# Altium integrated library Actel RTAX-DSP.IntLib: 8 symbols (part 1 of 2)
Pins are listed as number, name and electrical type; pins without a type are passive.

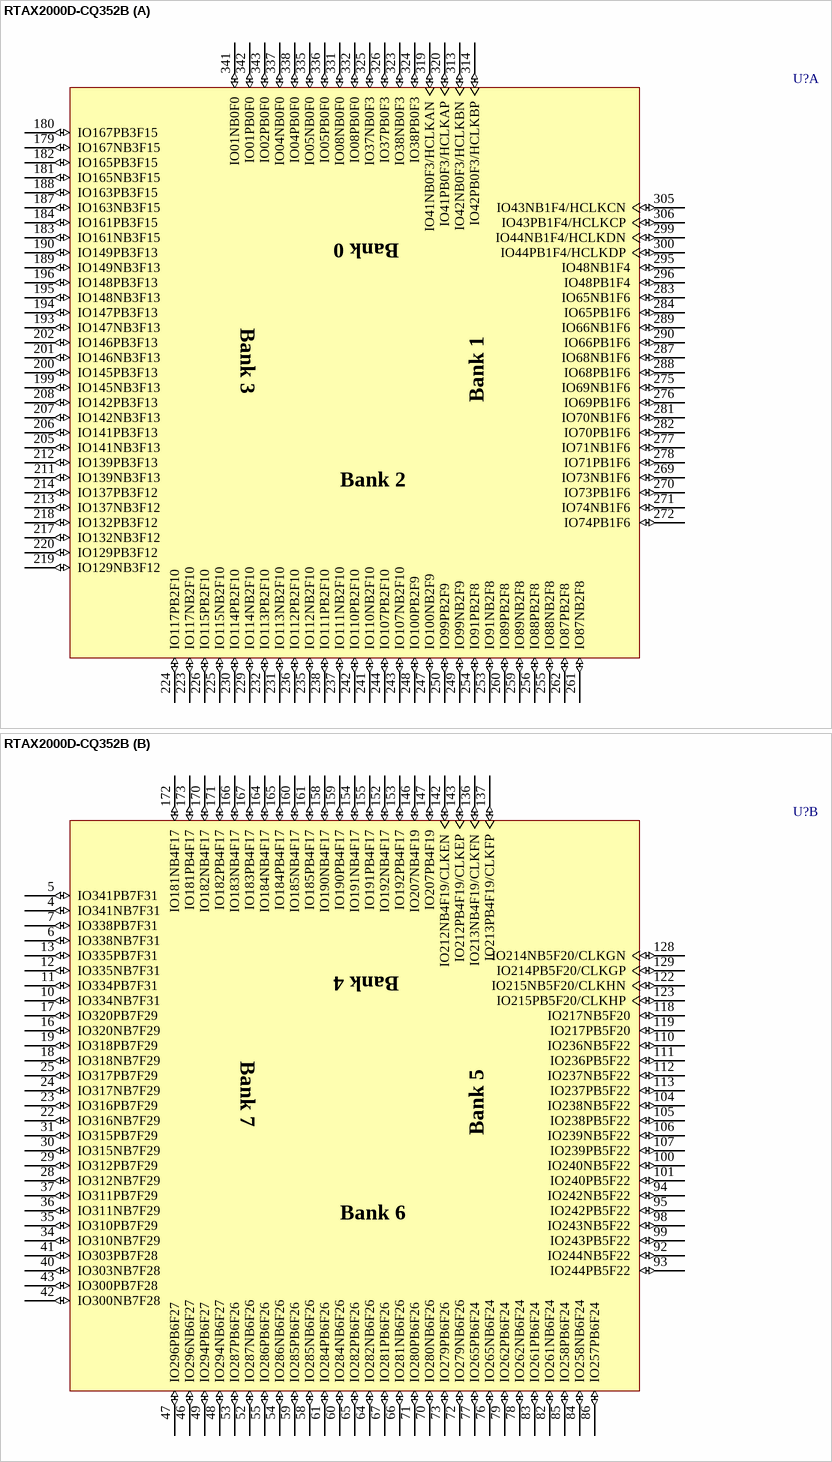
[diagram p0: symbol RTAX2000D-CQ352B]

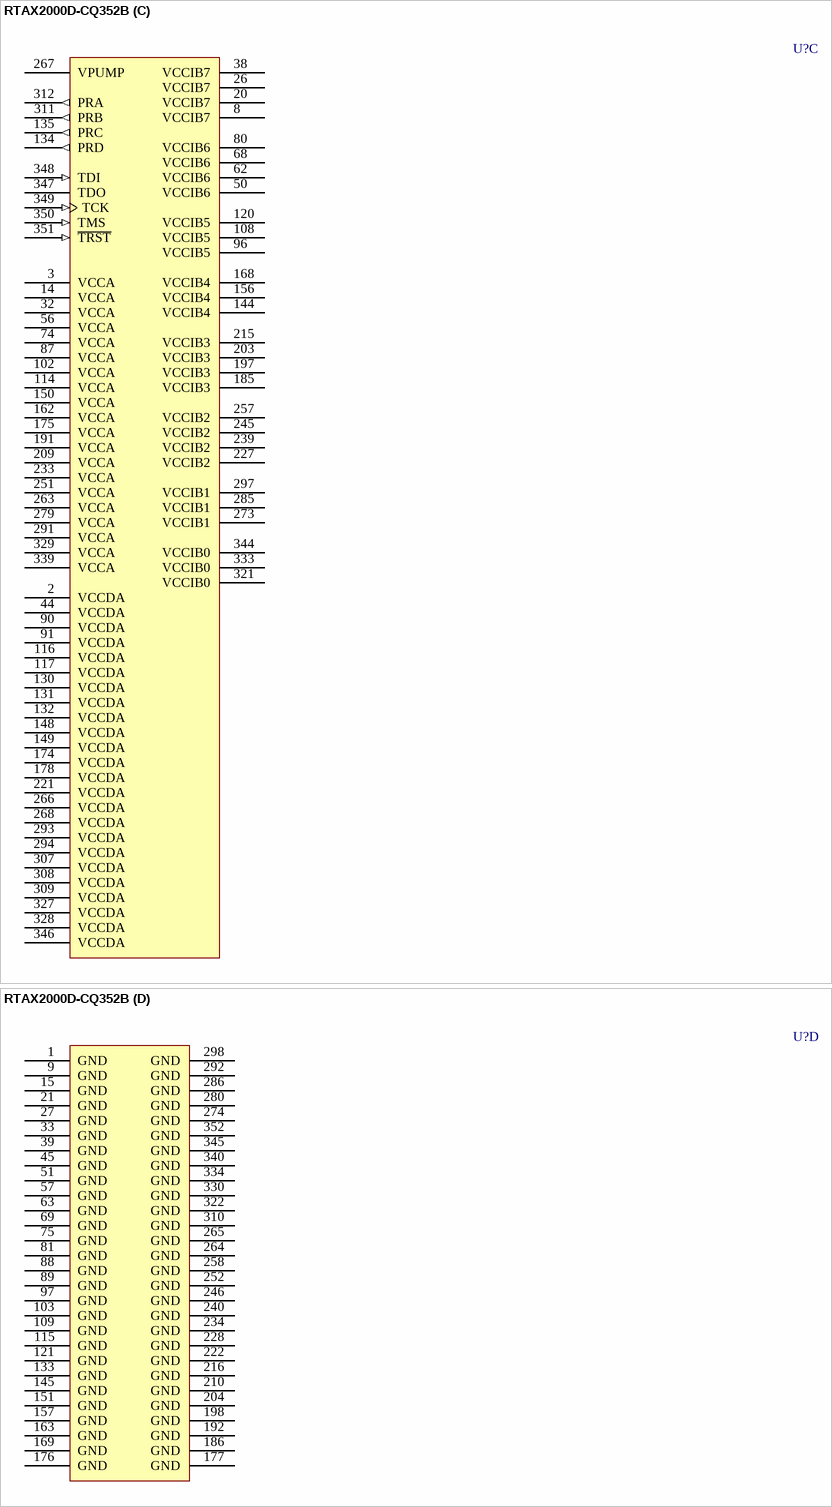
[diagram p1: symbol RTAX2000D-CQ352B]

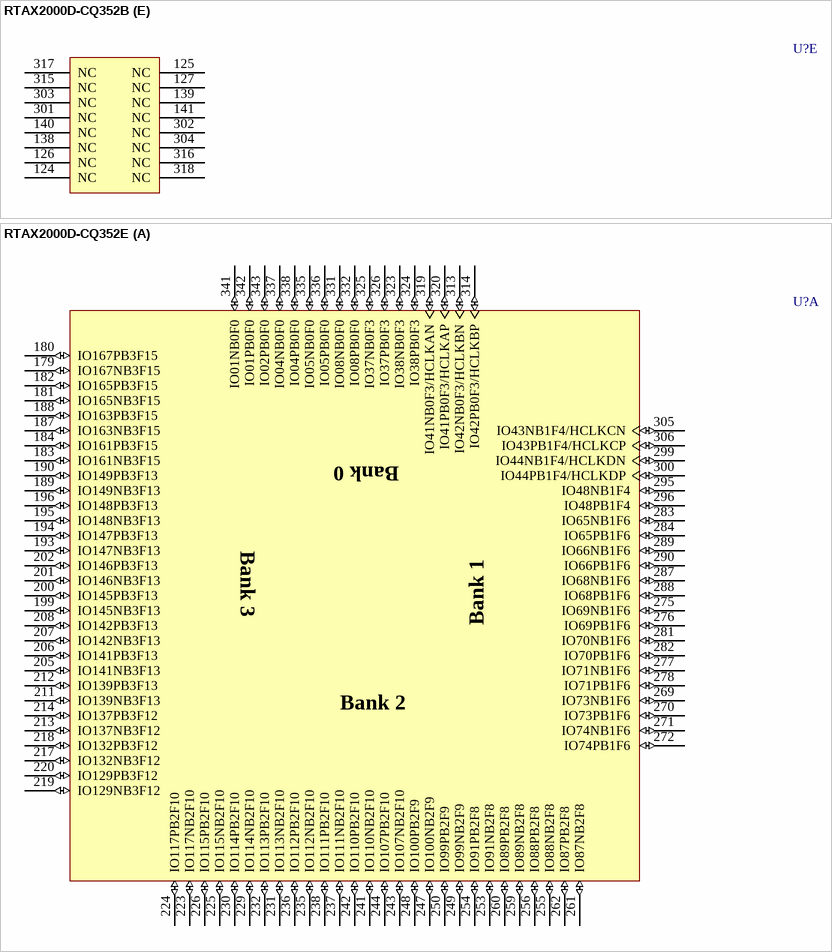
[diagram p2: symbols RTAX2000D-CQ352B to RTAX2000D-CQ352E]

## RTAX2000D-CQ352B
designator U?
RTAX-DSP RadTolerant FPGA, 2 Million Equivalent System Gates, 352-Pin CQFP, Standard Speed Grade, MIL-STD-883 Class B; Published: 11-Dec-2009; DatasheetVersion: v0.2, Nov-2009; PackageVersion: ver11.2, Nov-2009; PackageReference: CQ352; Publisher: Altium Limited; PackageDescription: 352-Pin Ceramic Quad Flat Pack (CQFP), Cavity Up without Heat Sink; Code_JEDEC: MO-134-AE; ComponentLink1Description: RTAX-S/SL RadTolerant Datasheet; ComponentLink1URL: http://www.actel.com/documents/RTAXS_DS.pdf; ComponentLink2Description: Package Mechanical Drawings; ComponentLink2URL: http://www.actel.com/documents/PckgMechDrwngs.pdf; ComponentLink3Description: RTAX-DSP Documents; ComponentLink3URL: http://www.actel.com/products/milaero/rtaxdsp/docs.aspx; ComponentLink4Description: Actel.com Home; ComponentLink4URL: http://www.actel.com/
footprint CQ352_N (CQFP, 352-Leads, Body 48x48mm; Pitch 0.5mm, Gullwing Leadform, IPC Medium Density)
footprint CQ352_L (CQFP, 352-Leads, Body 48x48mm; Pitch 0.5mm, Gullwing Leadform, IPC High Density)
footprint CQ352_M (CQFP, 352-Leads, Body 48x48mm; Pitch 0.5mm, Gullwing Leadform, IPC Low Density)
part A pins: 179 IO167NB3F15 (io), 180 IO167PB3F15 (io), 181 IO165NB3F15 (io), 182 IO165PB3F15 (io), 183 IO161NB3F15 (io), 184 IO161PB3F15 (io), 187 IO163NB3F15 (io), 188 IO163PB3F15 (io), 189 IO149NB3F13 (io), 190 IO149PB3F13 (io), 193 IO147NB3F13 (io), 194 IO147PB3F13 (io), 195 IO148NB3F13 (io), 196 IO148PB3F13 (io), 199 IO145NB3F13 (io), 200 IO145PB3F13 (io), 201 IO146NB3F13 (io), 202 IO146PB3F13 (io), 205 IO141NB3F13 (io), 206 IO141PB3F13 (io), 207 IO142NB3F13 (io), 208 IO142PB3F13 (io), 211 IO139NB3F13 (io), 212 IO139PB3F13 (io), 213 IO137NB3F12 (io), 214 IO137PB3F12 (io), 217 IO132NB3F12 (io), 218 IO132PB3F12 (io), 219 IO129NB3F12 (io), 220 IO129PB3F12 (io), 223 IO117NB2F10 (io), 224 IO117PB2F10 (io), 225 IO115NB2F10 (io), 226 IO115PB2F10 (io), 229 IO114NB2F10 (io), 230 IO114PB2F10 (io), 231 IO113NB2F10 (io), 232 IO113PB2F10 (io), 235 IO112NB2F10 (io), 236 IO112PB2F10 (io), 237 IO111NB2F10 (io), 238 IO111PB2F10 (io), 241 IO110NB2F10 (io), 242 IO110PB2F10 (io), 243 IO107NB2F10 (io), 244 IO107PB2F10 (io), 247 IO100NB2F9 (io), 248 IO100PB2F9 (io), 249 IO99NB2F9 (io), 250 IO99PB2F9 (io), 253 IO91NB2F8 (io), 254 IO91PB2F8 (io), 255 IO88NB2F8 (io), 256 IO88PB2F8 (io), 259 IO89NB2F8 (io), 260 IO89PB2F8 (io), 261 IO87NB2F8 (io), 262 IO87PB2F8 (io), 269 IO73NB1F6 (io), 270 IO73PB1F6 (io), 271 IO74NB1F6 (io), 272 IO74PB1F6 (io), 275 IO69NB1F6 (io), 276 IO69PB1F6 (io), 277 IO71NB1F6 (io), 278 IO71PB1F6 (io), 281 IO70NB1F6 (io), 282 IO70PB1F6 (io), 283 IO65NB1F6 (io), 284 IO65PB1F6 (io), 287 IO68NB1F6 (io), 288 IO68PB1F6 (io), 289 IO66NB1F6 (io), 290 IO66PB1F6 (io), 295 IO48NB1F4 (io), 296 IO48PB1F4 (io), 299 IO44NB1F4/HCLKDN (io), 300 IO44PB1F4/HCLKDP (io), 305 IO43NB1F4/HCLKCN (io), 306 IO43PB1F4/HCLKCP (io), 313 IO42NB0F3/HCLKBN (io), 314 IO42PB0F3/HCLKBP (io), 319 IO41NB0F3/HCLKAN (io), 320 IO41PB0F3/HCLKAP (io), 323 IO38NB0F3 (io), 324 IO38PB0F3 (io), 325 IO37NB0F3 (io), 326 IO37PB0F3 (io), 331 IO08NB0F0 (io), 332 IO08PB0F0 (io), 335 IO05NB0F0 (io), 336 IO05PB0F0 (io), 337 IO04NB0F0 (io), 338 IO04PB0F0 (io), 341 IO01NB0F0 (io), 342 IO01PB0F0 (io), 343 IO02PB0F0 (io)
part B pins: 4 IO341NB7F31 (io), 5 IO341PB7F31 (io), 6 IO338NB7F31 (io), 7 IO338PB7F31 (io), 10 IO334NB7F31 (io), 11 IO334PB7F31 (io), 12 IO335NB7F31 (io), 13 IO335PB7F31 (io), 16 IO320NB7F29 (io), 17 IO320PB7F29 (io), 18 IO318NB7F29 (io), 19 IO318PB7F29 (io), 22 IO316NB7F29 (io), 23 IO316PB7F29 (io), 24 IO317NB7F29 (io), 25 IO317PB7F29 (io), 28 IO312NB7F29 (io), 29 IO312PB7F29 (io), 30 IO315NB7F29 (io), 31 IO315PB7F29 (io), 34 IO310NB7F29 (io), 35 IO310PB7F29 (io), 36 IO311NB7F29 (io), 37 IO311PB7F29 (io), 40 IO303NB7F28 (io), 41 IO303PB7F28 (io), 42 IO300NB7F28 (io), 43 IO300PB7F28 (io), 46 IO296NB6F27 (io), 47 IO296PB6F27 (io), 48 IO294NB6F27 (io), 49 IO294PB6F27 (io), 52 IO287NB6F26 (io), 53 IO287PB6F26 (io), 54 IO286NB6F26 (io), 55 IO286PB6F26 (io), 58 IO285NB6F26 (io), 59 IO285PB6F26 (io), 60 IO284NB6F26 (io), 61 IO284PB6F26 (io), 64 IO282NB6F26 (io), 65 IO282PB6F26 (io), 66 IO281NB6F26 (io), 67 IO281PB6F26 (io), 70 IO280NB6F26 (io), 71 IO280PB6F26 (io), 72 IO279NB6F26 (io), 73 IO279PB6F26 (io), 76 IO265NB6F24 (io), 77 IO265PB6F24 (io), 78 IO262NB6F24 (io), 79 IO262PB6F24 (io), 82 IO261NB6F24 (io), 83 IO261PB6F24 (io), 84 IO258NB6F24 (io), 85 IO258PB6F24 (io), 86 IO257PB6F24 (io), 92 IO244NB5F22 (io), 93 IO244PB5F22 (io), 94 IO242NB5F22 (io), 95 IO242PB5F22 (io), 98 IO243NB5F22 (io), 99 IO243PB5F22 (io), 100 IO240NB5F22 (io), 101 IO240PB5F22 (io), 104 IO238NB5F22 (io), 105 IO238PB5F22 (io), 106 IO239NB5F22 (io), 107 IO239PB5F22 (io), 110 IO236NB5F22 (io), 111 IO236PB5F22 (io), 112 IO237NB5F22 (io), 113 IO237PB5F22 (io), 118 IO217NB5F20 (io), 119 IO217PB5F20 (io), 122 IO215NB5F20/CLKHN (io), 123 IO215PB5F20/CLKHP (io), 128 IO214NB5F20/CLKGN (io), 129 IO214PB5F20/CLKGP (io), 136 IO213NB4F19/CLKFN (io), 137 IO213PB4F19/CLKFP (io), 142 IO212NB4F19/CLKEN (io), 143 IO212PB4F19/CLKEP (io), 146 IO207NB4F19 (io), 147 IO207PB4F19 (io), 152 IO192NB4F17 (io), 153 IO192PB4F17 (io), 154 IO191NB4F17 (io), 155 IO191PB4F17 (io), 158 IO190NB4F17 (io), 159 IO190PB4F17 (io), 160 IO185NB4F17 (io), 161 IO185PB4F17 (io), 164 IO184NB4F17 (io), 165 IO184PB4F17 (io), 166 IO183NB4F17 (io), 167 IO183PB4F17 (io), 170 IO182NB4F17 (io), 171 IO182PB4F17 (io), 172 IO181NB4F17 (io), 173 IO181PB4F17 (io)
part C pins: 2 VCCDA (power), 3 VCCA (power), 8 VCCIB7 (power), 14 VCCA (power), 20 VCCIB7 (power), 26 VCCIB7 (power), 32 VCCA (power), 38 VCCIB7 (power), 44 VCCDA (power), 50 VCCIB6 (power), 56 VCCA (power), 62 VCCIB6 (power), 68 VCCIB6 (power), 74 VCCA (power), 80 VCCIB6 (power), 87 VCCA (power), 90 VCCDA (power), 91 VCCDA (power), 96 VCCIB5 (power), 102 VCCA (power), 108 VCCIB5 (power), 114 VCCA (power), 116 VCCDA (power), 117 VCCDA (power), 120 VCCIB5 (power), 130 VCCDA (power), 131 VCCDA (power), 132 VCCDA (power), 134 PRD (out), 135 PRC (out), 144 VCCIB4 (power), 148 VCCDA (power), 149 VCCDA (power), 150 VCCA (power), 156 VCCIB4 (power), 162 VCCA (power), 168 VCCIB4 (power), 174 VCCDA (power), 175 VCCA (power), 178 VCCDA (power), 185 VCCIB3 (power), 191 VCCA (power), 197 VCCIB3 (power), 203 VCCIB3 (power), 209 VCCA (power), 215 VCCIB3 (power), 221 VCCDA (power), 227 VCCIB2 (power), 233 VCCA (power), 239 VCCIB2 (power), 245 VCCIB2 (power), 251 VCCA (power), 257 VCCIB2 (power), 263 VCCA (power), 266 VCCDA (power), 267 VPUMP (power), 268 VCCDA (power), 273 VCCIB1 (power), 279 VCCA (power), 285 VCCIB1 (power), 291 VCCA (power), 293 VCCDA (power), 294 VCCDA (power), 297 VCCIB1 (power), 307 VCCDA (power), 308 VCCDA (power), 309 VCCDA (power), 311 PRB (out), 312 PRA (out), 321 VCCIB0 (power), 327 VCCDA (power), 328 VCCDA (power), 329 VCCA (power), 333 VCCIB0 (power), 339 VCCA (power), 344 VCCIB0 (power), 346 VCCDA (power), 347 TDO (hiz), 348 TDI (in), 349 TCK (in), 350 TMS (in), 351 ~{TRST} (in)
part D pins: 1 GND (power), 9 GND (power), 15 GND (power), 21 GND (power), 27 GND (power), 33 GND (power), 39 GND (power), 45 GND (power), 51 GND (power), 57 GND (power), 63 GND (power), 69 GND (power), 75 GND (power), 81 GND (power), 88 GND (power), 89 GND (power), 97 GND (power), 103 GND (power), 109 GND (power), 115 GND (power), 121 GND (power), 133 GND (power), 145 GND (power), 151 GND (power), 157 GND (power), 163 GND (power), 169 GND (power), 176 GND (power), 177 GND (power), 186 GND (power), 192 GND (power), 198 GND (power), 204 GND (power), 210 GND (power), 216 GND (power), 222 GND (power), 228 GND (power), 234 GND (power), 240 GND (power), 246 GND (power), 252 GND (power), 258 GND (power), 264 GND (power), 265 GND (power), 274 GND (power), 280 GND (power), 286 GND (power), 292 GND (power), 298 GND (power), 310 GND (power), 322 GND (power), 330 GND (power), 334 GND (power), 340 GND (power), 345 GND (power), 352 GND (power)
part E pins: 124 NC, 125 NC, 126 NC, 127 NC, 138 NC, 139 NC, 140 NC, 141 NC, 301 NC, 302 NC, 303 NC, 304 NC, 315 NC, 316 NC, 317 NC, 318 NC
part A text: Bank 0; Bank 3; Bank 1; Bank 2
part B text: Bank 4; Bank 7; Bank 5; Bank 6

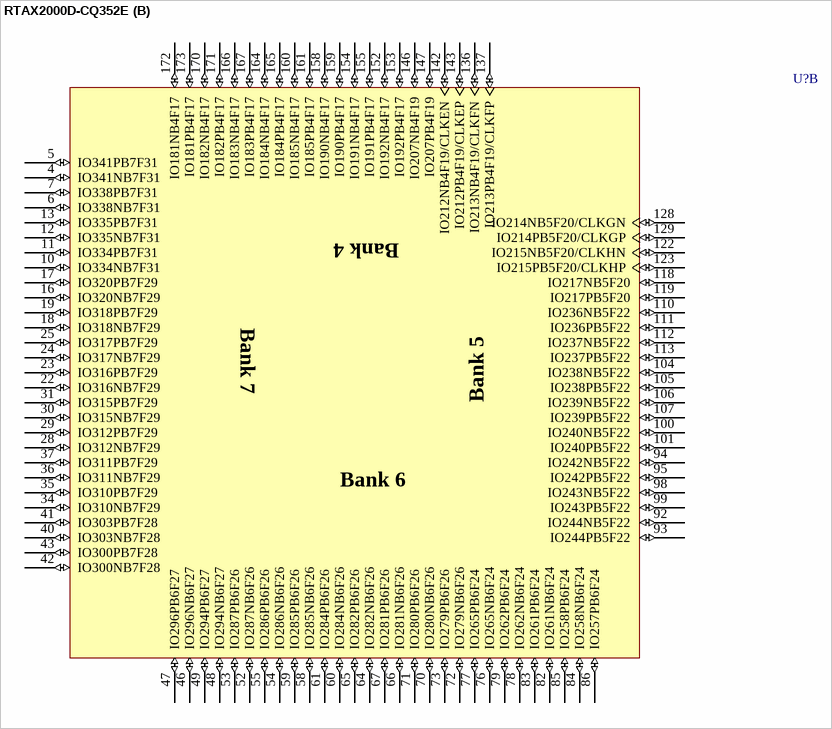
[diagram p3: symbol RTAX2000D-CQ352E]

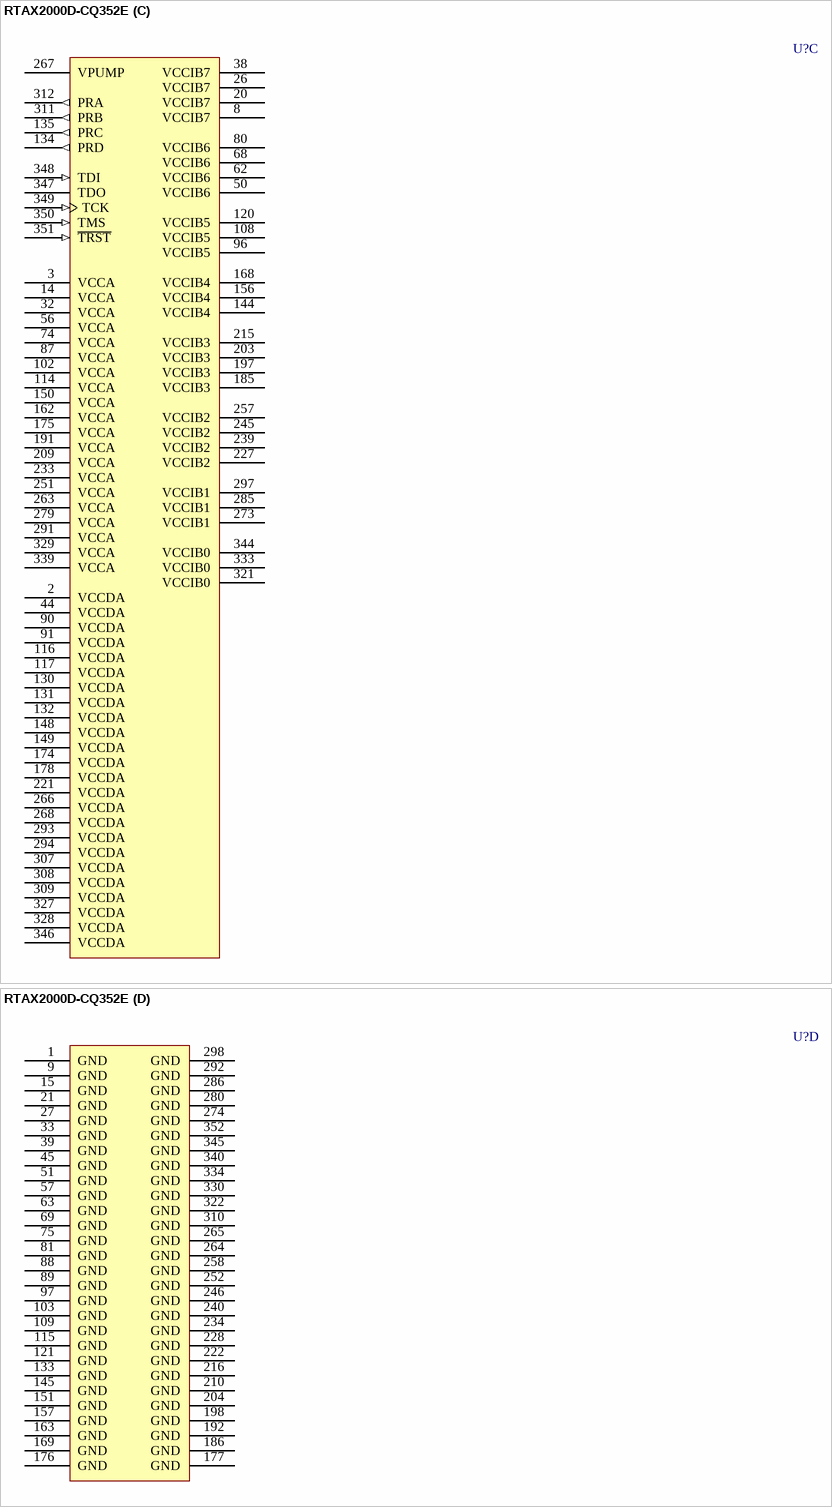
[diagram p4: symbol RTAX2000D-CQ352E]

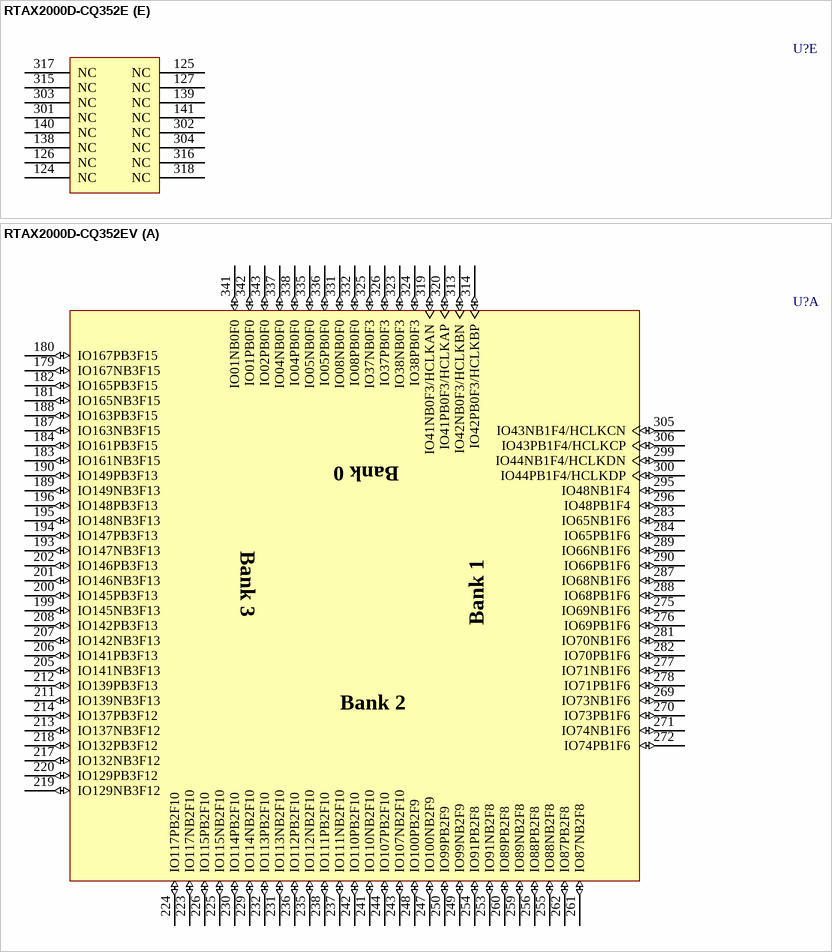
[diagram p5: symbols RTAX2000D-CQ352E to RTAX2000D-CQ352EV]

## RTAX2000D-CQ352E
designator U?
RTAX-DSP RadTolerant FPGA, 2 Million Equivalent System Gates, 352-Pin CQFP, Standard Speed Grade, E-Flow (Space Level Flow); Published: 11-Dec-2009; DatasheetVersion: v0.2, Nov-2009; PackageVersion: ver11.2, Nov-2009; PackageReference: CQ352; Publisher: Altium Limited; PackageDescription: 352-Pin Ceramic Quad Flat Pack (CQFP), Cavity Up without Heat Sink; Code_JEDEC: MO-134-AE; ComponentLink1Description: RTAX-S/SL RadTolerant Datasheet; ComponentLink1URL: http://www.actel.com/documents/RTAXS_DS.pdf; ComponentLink2Description: Package Mechanical Drawings; ComponentLink2URL: http://www.actel.com/documents/PckgMechDrwngs.pdf; ComponentLink3Description: RTAX-DSP Documents; ComponentLink3URL: http://www.actel.com/products/milaero/rtaxdsp/docs.aspx; ComponentLink4Description: Actel.com Home; ComponentLink4URL: http://www.actel.com/
footprint CQ352_N (CQFP, 352-Leads, Body 48x48mm; Pitch 0.5mm, Gullwing Leadform, IPC Medium Density)
footprint CQ352_L (CQFP, 352-Leads, Body 48x48mm; Pitch 0.5mm, Gullwing Leadform, IPC High Density)
footprint CQ352_M (CQFP, 352-Leads, Body 48x48mm; Pitch 0.5mm, Gullwing Leadform, IPC Low Density)
part A pins: 179 IO167NB3F15 (io), 180 IO167PB3F15 (io), 181 IO165NB3F15 (io), 182 IO165PB3F15 (io), 183 IO161NB3F15 (io), 184 IO161PB3F15 (io), 187 IO163NB3F15 (io), 188 IO163PB3F15 (io), 189 IO149NB3F13 (io), 190 IO149PB3F13 (io), 193 IO147NB3F13 (io), 194 IO147PB3F13 (io), 195 IO148NB3F13 (io), 196 IO148PB3F13 (io), 199 IO145NB3F13 (io), 200 IO145PB3F13 (io), 201 IO146NB3F13 (io), 202 IO146PB3F13 (io), 205 IO141NB3F13 (io), 206 IO141PB3F13 (io), 207 IO142NB3F13 (io), 208 IO142PB3F13 (io), 211 IO139NB3F13 (io), 212 IO139PB3F13 (io), 213 IO137NB3F12 (io), 214 IO137PB3F12 (io), 217 IO132NB3F12 (io), 218 IO132PB3F12 (io), 219 IO129NB3F12 (io), 220 IO129PB3F12 (io), 223 IO117NB2F10 (io), 224 IO117PB2F10 (io), 225 IO115NB2F10 (io), 226 IO115PB2F10 (io), 229 IO114NB2F10 (io), 230 IO114PB2F10 (io), 231 IO113NB2F10 (io), 232 IO113PB2F10 (io), 235 IO112NB2F10 (io), 236 IO112PB2F10 (io), 237 IO111NB2F10 (io), 238 IO111PB2F10 (io), 241 IO110NB2F10 (io), 242 IO110PB2F10 (io), 243 IO107NB2F10 (io), 244 IO107PB2F10 (io), 247 IO100NB2F9 (io), 248 IO100PB2F9 (io), 249 IO99NB2F9 (io), 250 IO99PB2F9 (io), 253 IO91NB2F8 (io), 254 IO91PB2F8 (io), 255 IO88NB2F8 (io), 256 IO88PB2F8 (io), 259 IO89NB2F8 (io), 260 IO89PB2F8 (io), 261 IO87NB2F8 (io), 262 IO87PB2F8 (io), 269 IO73NB1F6 (io), 270 IO73PB1F6 (io), 271 IO74NB1F6 (io), 272 IO74PB1F6 (io), 275 IO69NB1F6 (io), 276 IO69PB1F6 (io), 277 IO71NB1F6 (io), 278 IO71PB1F6 (io), 281 IO70NB1F6 (io), 282 IO70PB1F6 (io), 283 IO65NB1F6 (io), 284 IO65PB1F6 (io), 287 IO68NB1F6 (io), 288 IO68PB1F6 (io), 289 IO66NB1F6 (io), 290 IO66PB1F6 (io), 295 IO48NB1F4 (io), 296 IO48PB1F4 (io), 299 IO44NB1F4/HCLKDN (io), 300 IO44PB1F4/HCLKDP (io), 305 IO43NB1F4/HCLKCN (io), 306 IO43PB1F4/HCLKCP (io), 313 IO42NB0F3/HCLKBN (io), 314 IO42PB0F3/HCLKBP (io), 319 IO41NB0F3/HCLKAN (io), 320 IO41PB0F3/HCLKAP (io), 323 IO38NB0F3 (io), 324 IO38PB0F3 (io), 325 IO37NB0F3 (io), 326 IO37PB0F3 (io), 331 IO08NB0F0 (io), 332 IO08PB0F0 (io), 335 IO05NB0F0 (io), 336 IO05PB0F0 (io), 337 IO04NB0F0 (io), 338 IO04PB0F0 (io), 341 IO01NB0F0 (io), 342 IO01PB0F0 (io), 343 IO02PB0F0 (io)
part B pins: 4 IO341NB7F31 (io), 5 IO341PB7F31 (io), 6 IO338NB7F31 (io), 7 IO338PB7F31 (io), 10 IO334NB7F31 (io), 11 IO334PB7F31 (io), 12 IO335NB7F31 (io), 13 IO335PB7F31 (io), 16 IO320NB7F29 (io), 17 IO320PB7F29 (io), 18 IO318NB7F29 (io), 19 IO318PB7F29 (io), 22 IO316NB7F29 (io), 23 IO316PB7F29 (io), 24 IO317NB7F29 (io), 25 IO317PB7F29 (io), 28 IO312NB7F29 (io), 29 IO312PB7F29 (io), 30 IO315NB7F29 (io), 31 IO315PB7F29 (io), 34 IO310NB7F29 (io), 35 IO310PB7F29 (io), 36 IO311NB7F29 (io), 37 IO311PB7F29 (io), 40 IO303NB7F28 (io), 41 IO303PB7F28 (io), 42 IO300NB7F28 (io), 43 IO300PB7F28 (io), 46 IO296NB6F27 (io), 47 IO296PB6F27 (io), 48 IO294NB6F27 (io), 49 IO294PB6F27 (io), 52 IO287NB6F26 (io), 53 IO287PB6F26 (io), 54 IO286NB6F26 (io), 55 IO286PB6F26 (io), 58 IO285NB6F26 (io), 59 IO285PB6F26 (io), 60 IO284NB6F26 (io), 61 IO284PB6F26 (io), 64 IO282NB6F26 (io), 65 IO282PB6F26 (io), 66 IO281NB6F26 (io), 67 IO281PB6F26 (io), 70 IO280NB6F26 (io), 71 IO280PB6F26 (io), 72 IO279NB6F26 (io), 73 IO279PB6F26 (io), 76 IO265NB6F24 (io), 77 IO265PB6F24 (io), 78 IO262NB6F24 (io), 79 IO262PB6F24 (io), 82 IO261NB6F24 (io), 83 IO261PB6F24 (io), 84 IO258NB6F24 (io), 85 IO258PB6F24 (io), 86 IO257PB6F24 (io), 92 IO244NB5F22 (io), 93 IO244PB5F22 (io), 94 IO242NB5F22 (io), 95 IO242PB5F22 (io), 98 IO243NB5F22 (io), 99 IO243PB5F22 (io), 100 IO240NB5F22 (io), 101 IO240PB5F22 (io), 104 IO238NB5F22 (io), 105 IO238PB5F22 (io), 106 IO239NB5F22 (io), 107 IO239PB5F22 (io), 110 IO236NB5F22 (io), 111 IO236PB5F22 (io), 112 IO237NB5F22 (io), 113 IO237PB5F22 (io), 118 IO217NB5F20 (io), 119 IO217PB5F20 (io), 122 IO215NB5F20/CLKHN (io), 123 IO215PB5F20/CLKHP (io), 128 IO214NB5F20/CLKGN (io), 129 IO214PB5F20/CLKGP (io), 136 IO213NB4F19/CLKFN (io), 137 IO213PB4F19/CLKFP (io), 142 IO212NB4F19/CLKEN (io), 143 IO212PB4F19/CLKEP (io), 146 IO207NB4F19 (io), 147 IO207PB4F19 (io), 152 IO192NB4F17 (io), 153 IO192PB4F17 (io), 154 IO191NB4F17 (io), 155 IO191PB4F17 (io), 158 IO190NB4F17 (io), 159 IO190PB4F17 (io), 160 IO185NB4F17 (io), 161 IO185PB4F17 (io), 164 IO184NB4F17 (io), 165 IO184PB4F17 (io), 166 IO183NB4F17 (io), 167 IO183PB4F17 (io), 170 IO182NB4F17 (io), 171 IO182PB4F17 (io), 172 IO181NB4F17 (io), 173 IO181PB4F17 (io)
part C pins: 2 VCCDA (power), 3 VCCA (power), 8 VCCIB7 (power), 14 VCCA (power), 20 VCCIB7 (power), 26 VCCIB7 (power), 32 VCCA (power), 38 VCCIB7 (power), 44 VCCDA (power), 50 VCCIB6 (power), 56 VCCA (power), 62 VCCIB6 (power), 68 VCCIB6 (power), 74 VCCA (power), 80 VCCIB6 (power), 87 VCCA (power), 90 VCCDA (power), 91 VCCDA (power), 96 VCCIB5 (power), 102 VCCA (power), 108 VCCIB5 (power), 114 VCCA (power), 116 VCCDA (power), 117 VCCDA (power), 120 VCCIB5 (power), 130 VCCDA (power), 131 VCCDA (power), 132 VCCDA (power), 134 PRD (out), 135 PRC (out), 144 VCCIB4 (power), 148 VCCDA (power), 149 VCCDA (power), 150 VCCA (power), 156 VCCIB4 (power), 162 VCCA (power), 168 VCCIB4 (power), 174 VCCDA (power), 175 VCCA (power), 178 VCCDA (power), 185 VCCIB3 (power), 191 VCCA (power), 197 VCCIB3 (power), 203 VCCIB3 (power), 209 VCCA (power), 215 VCCIB3 (power), 221 VCCDA (power), 227 VCCIB2 (power), 233 VCCA (power), 239 VCCIB2 (power), 245 VCCIB2 (power), 251 VCCA (power), 257 VCCIB2 (power), 263 VCCA (power), 266 VCCDA (power), 267 VPUMP (power), 268 VCCDA (power), 273 VCCIB1 (power), 279 VCCA (power), 285 VCCIB1 (power), 291 VCCA (power), 293 VCCDA (power), 294 VCCDA (power), 297 VCCIB1 (power), 307 VCCDA (power), 308 VCCDA (power), 309 VCCDA (power), 311 PRB (out), 312 PRA (out), 321 VCCIB0 (power), 327 VCCDA (power), 328 VCCDA (power), 329 VCCA (power), 333 VCCIB0 (power), 339 VCCA (power), 344 VCCIB0 (power), 346 VCCDA (power), 347 TDO (hiz), 348 TDI (in), 349 TCK (in), 350 TMS (in), 351 ~{TRST} (in)
part D pins: 1 GND (power), 9 GND (power), 15 GND (power), 21 GND (power), 27 GND (power), 33 GND (power), 39 GND (power), 45 GND (power), 51 GND (power), 57 GND (power), 63 GND (power), 69 GND (power), 75 GND (power), 81 GND (power), 88 GND (power), 89 GND (power), 97 GND (power), 103 GND (power), 109 GND (power), 115 GND (power), 121 GND (power), 133 GND (power), 145 GND (power), 151 GND (power), 157 GND (power), 163 GND (power), 169 GND (power), 176 GND (power), 177 GND (power), 186 GND (power), 192 GND (power), 198 GND (power), 204 GND (power), 210 GND (power), 216 GND (power), 222 GND (power), 228 GND (power), 234 GND (power), 240 GND (power), 246 GND (power), 252 GND (power), 258 GND (power), 264 GND (power), 265 GND (power), 274 GND (power), 280 GND (power), 286 GND (power), 292 GND (power), 298 GND (power), 310 GND (power), 322 GND (power), 330 GND (power), 334 GND (power), 340 GND (power), 345 GND (power), 352 GND (power)
part E pins: 124 NC, 125 NC, 126 NC, 127 NC, 138 NC, 139 NC, 140 NC, 141 NC, 301 NC, 302 NC, 303 NC, 304 NC, 315 NC, 316 NC, 317 NC, 318 NC
part A text: Bank 0; Bank 3; Bank 1; Bank 2
part B text: Bank 4; Bank 7; Bank 5; Bank 6

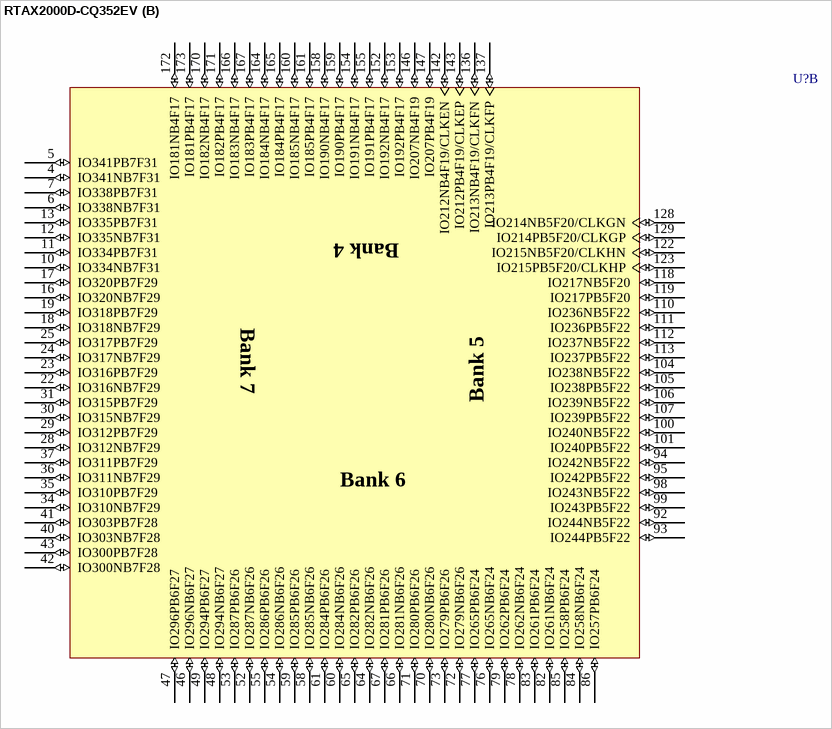
[diagram p6: symbol RTAX2000D-CQ352EV]

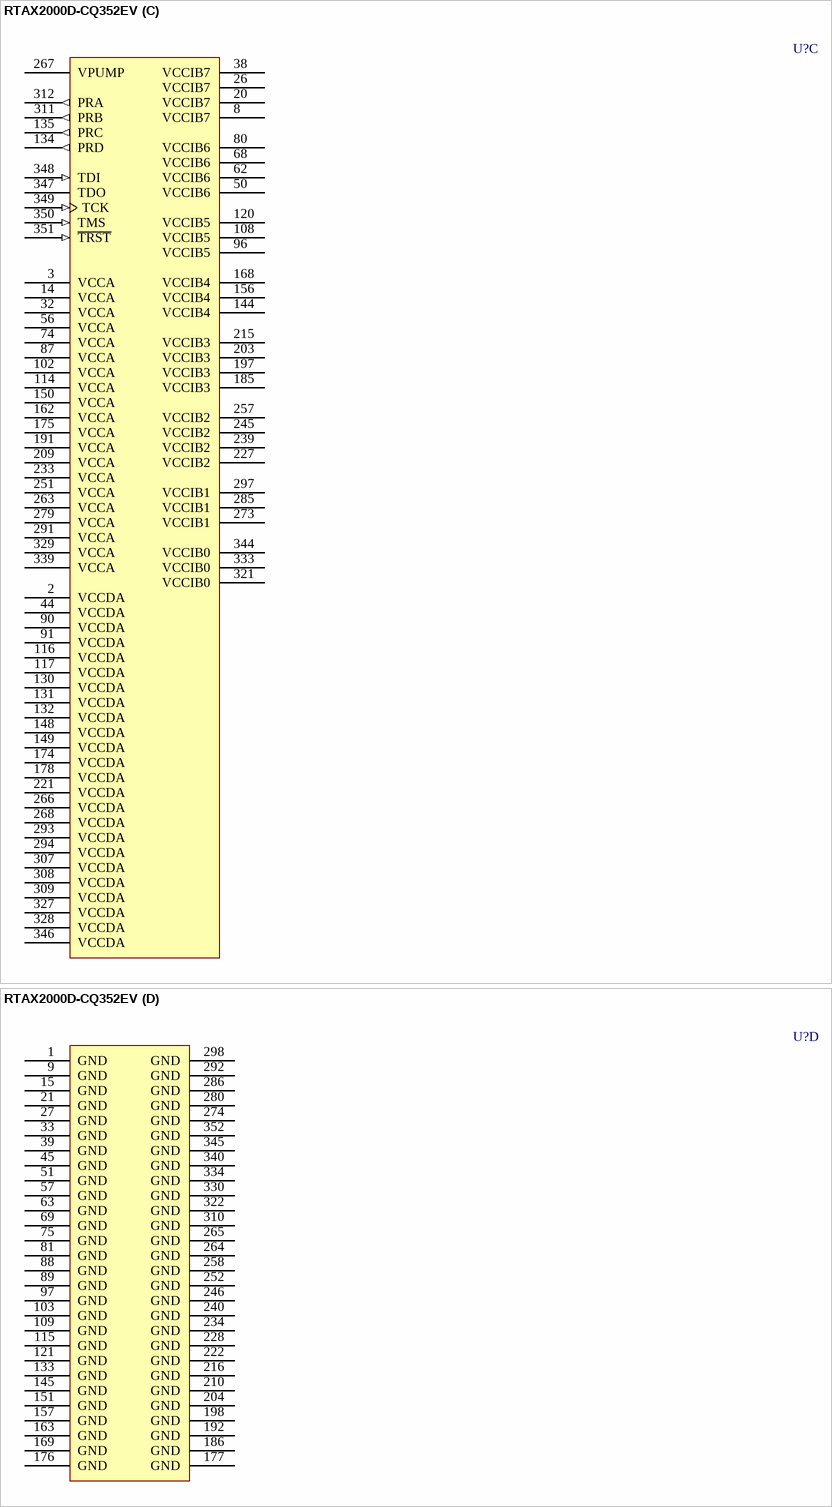
[diagram p7: symbol RTAX2000D-CQ352EV]

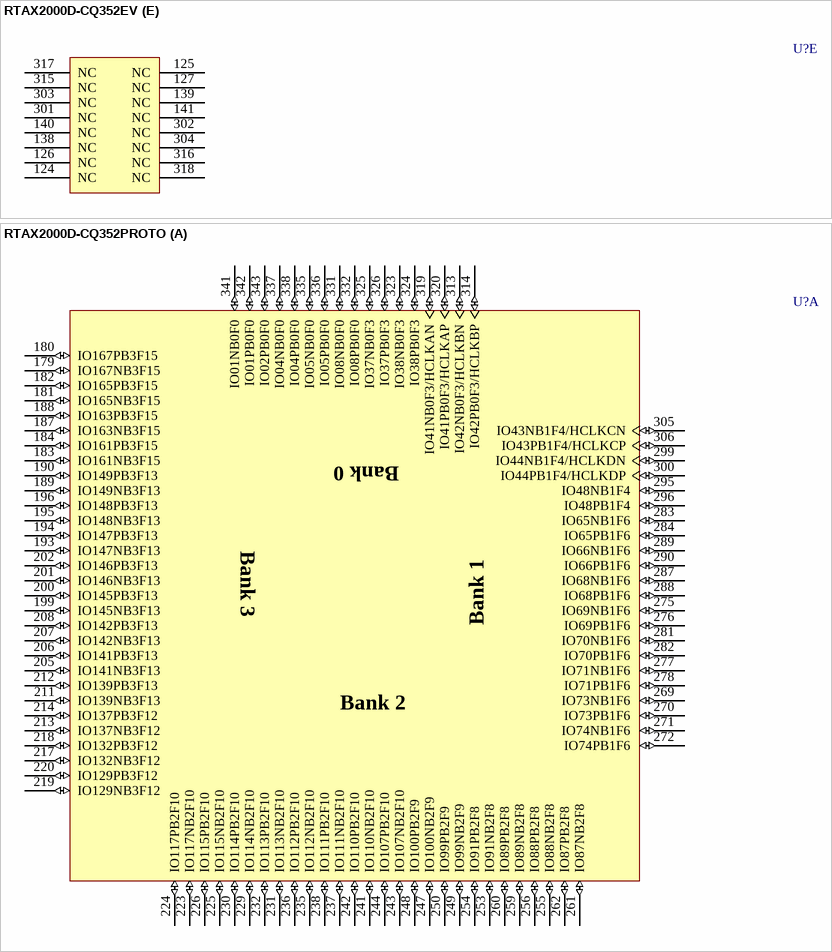
[diagram p8: symbols RTAX2000D-CQ352EV to RTAX2000D-CQ352PROTO]

## RTAX2000D-CQ352EV
designator U?
RTAX-DSP RadTolerant FPGA, 2 Million Equivalent System Gates, 352-Pin CQFP, Standard Speed Grade, Class V; Published: 11-Dec-2009; DatasheetVersion: v0.2, Nov-2009; PackageVersion: ver11.2, Nov-2009; PackageReference: CQ352; Publisher: Altium Limited; PackageDescription: 352-Pin Ceramic Quad Flat Pack (CQFP), Cavity Up without Heat Sink; Code_JEDEC: MO-134-AE; ComponentLink1Description: RTAX-S/SL RadTolerant Datasheet; ComponentLink1URL: http://www.actel.com/documents/RTAXS_DS.pdf; ComponentLink2Description: Package Mechanical Drawings; ComponentLink2URL: http://www.actel.com/documents/PckgMechDrwngs.pdf; ComponentLink3Description: RTAX-DSP Documents; ComponentLink3URL: http://www.actel.com/products/milaero/rtaxdsp/docs.aspx; ComponentLink4Description: Actel.com Home; ComponentLink4URL: http://www.actel.com/
footprint CQ352_N (CQFP, 352-Leads, Body 48x48mm; Pitch 0.5mm, Gullwing Leadform, IPC Medium Density)
footprint CQ352_L (CQFP, 352-Leads, Body 48x48mm; Pitch 0.5mm, Gullwing Leadform, IPC High Density)
footprint CQ352_M (CQFP, 352-Leads, Body 48x48mm; Pitch 0.5mm, Gullwing Leadform, IPC Low Density)
part A pins: 179 IO167NB3F15 (io), 180 IO167PB3F15 (io), 181 IO165NB3F15 (io), 182 IO165PB3F15 (io), 183 IO161NB3F15 (io), 184 IO161PB3F15 (io), 187 IO163NB3F15 (io), 188 IO163PB3F15 (io), 189 IO149NB3F13 (io), 190 IO149PB3F13 (io), 193 IO147NB3F13 (io), 194 IO147PB3F13 (io), 195 IO148NB3F13 (io), 196 IO148PB3F13 (io), 199 IO145NB3F13 (io), 200 IO145PB3F13 (io), 201 IO146NB3F13 (io), 202 IO146PB3F13 (io), 205 IO141NB3F13 (io), 206 IO141PB3F13 (io), 207 IO142NB3F13 (io), 208 IO142PB3F13 (io), 211 IO139NB3F13 (io), 212 IO139PB3F13 (io), 213 IO137NB3F12 (io), 214 IO137PB3F12 (io), 217 IO132NB3F12 (io), 218 IO132PB3F12 (io), 219 IO129NB3F12 (io), 220 IO129PB3F12 (io), 223 IO117NB2F10 (io), 224 IO117PB2F10 (io), 225 IO115NB2F10 (io), 226 IO115PB2F10 (io), 229 IO114NB2F10 (io), 230 IO114PB2F10 (io), 231 IO113NB2F10 (io), 232 IO113PB2F10 (io), 235 IO112NB2F10 (io), 236 IO112PB2F10 (io), 237 IO111NB2F10 (io), 238 IO111PB2F10 (io), 241 IO110NB2F10 (io), 242 IO110PB2F10 (io), 243 IO107NB2F10 (io), 244 IO107PB2F10 (io), 247 IO100NB2F9 (io), 248 IO100PB2F9 (io), 249 IO99NB2F9 (io), 250 IO99PB2F9 (io), 253 IO91NB2F8 (io), 254 IO91PB2F8 (io), 255 IO88NB2F8 (io), 256 IO88PB2F8 (io), 259 IO89NB2F8 (io), 260 IO89PB2F8 (io), 261 IO87NB2F8 (io), 262 IO87PB2F8 (io), 269 IO73NB1F6 (io), 270 IO73PB1F6 (io), 271 IO74NB1F6 (io), 272 IO74PB1F6 (io), 275 IO69NB1F6 (io), 276 IO69PB1F6 (io), 277 IO71NB1F6 (io), 278 IO71PB1F6 (io), 281 IO70NB1F6 (io), 282 IO70PB1F6 (io), 283 IO65NB1F6 (io), 284 IO65PB1F6 (io), 287 IO68NB1F6 (io), 288 IO68PB1F6 (io), 289 IO66NB1F6 (io), 290 IO66PB1F6 (io), 295 IO48NB1F4 (io), 296 IO48PB1F4 (io), 299 IO44NB1F4/HCLKDN (io), 300 IO44PB1F4/HCLKDP (io), 305 IO43NB1F4/HCLKCN (io), 306 IO43PB1F4/HCLKCP (io), 313 IO42NB0F3/HCLKBN (io), 314 IO42PB0F3/HCLKBP (io), 319 IO41NB0F3/HCLKAN (io), 320 IO41PB0F3/HCLKAP (io), 323 IO38NB0F3 (io), 324 IO38PB0F3 (io), 325 IO37NB0F3 (io), 326 IO37PB0F3 (io), 331 IO08NB0F0 (io), 332 IO08PB0F0 (io), 335 IO05NB0F0 (io), 336 IO05PB0F0 (io), 337 IO04NB0F0 (io), 338 IO04PB0F0 (io), 341 IO01NB0F0 (io), 342 IO01PB0F0 (io), 343 IO02PB0F0 (io)
part B pins: 4 IO341NB7F31 (io), 5 IO341PB7F31 (io), 6 IO338NB7F31 (io), 7 IO338PB7F31 (io), 10 IO334NB7F31 (io), 11 IO334PB7F31 (io), 12 IO335NB7F31 (io), 13 IO335PB7F31 (io), 16 IO320NB7F29 (io), 17 IO320PB7F29 (io), 18 IO318NB7F29 (io), 19 IO318PB7F29 (io), 22 IO316NB7F29 (io), 23 IO316PB7F29 (io), 24 IO317NB7F29 (io), 25 IO317PB7F29 (io), 28 IO312NB7F29 (io), 29 IO312PB7F29 (io), 30 IO315NB7F29 (io), 31 IO315PB7F29 (io), 34 IO310NB7F29 (io), 35 IO310PB7F29 (io), 36 IO311NB7F29 (io), 37 IO311PB7F29 (io), 40 IO303NB7F28 (io), 41 IO303PB7F28 (io), 42 IO300NB7F28 (io), 43 IO300PB7F28 (io), 46 IO296NB6F27 (io), 47 IO296PB6F27 (io), 48 IO294NB6F27 (io), 49 IO294PB6F27 (io), 52 IO287NB6F26 (io), 53 IO287PB6F26 (io), 54 IO286NB6F26 (io), 55 IO286PB6F26 (io), 58 IO285NB6F26 (io), 59 IO285PB6F26 (io), 60 IO284NB6F26 (io), 61 IO284PB6F26 (io), 64 IO282NB6F26 (io), 65 IO282PB6F26 (io), 66 IO281NB6F26 (io), 67 IO281PB6F26 (io), 70 IO280NB6F26 (io), 71 IO280PB6F26 (io), 72 IO279NB6F26 (io), 73 IO279PB6F26 (io), 76 IO265NB6F24 (io), 77 IO265PB6F24 (io), 78 IO262NB6F24 (io), 79 IO262PB6F24 (io), 82 IO261NB6F24 (io), 83 IO261PB6F24 (io), 84 IO258NB6F24 (io), 85 IO258PB6F24 (io), 86 IO257PB6F24 (io), 92 IO244NB5F22 (io), 93 IO244PB5F22 (io), 94 IO242NB5F22 (io), 95 IO242PB5F22 (io), 98 IO243NB5F22 (io), 99 IO243PB5F22 (io), 100 IO240NB5F22 (io), 101 IO240PB5F22 (io), 104 IO238NB5F22 (io), 105 IO238PB5F22 (io), 106 IO239NB5F22 (io), 107 IO239PB5F22 (io), 110 IO236NB5F22 (io), 111 IO236PB5F22 (io), 112 IO237NB5F22 (io), 113 IO237PB5F22 (io), 118 IO217NB5F20 (io), 119 IO217PB5F20 (io), 122 IO215NB5F20/CLKHN (io), 123 IO215PB5F20/CLKHP (io), 128 IO214NB5F20/CLKGN (io), 129 IO214PB5F20/CLKGP (io), 136 IO213NB4F19/CLKFN (io), 137 IO213PB4F19/CLKFP (io), 142 IO212NB4F19/CLKEN (io), 143 IO212PB4F19/CLKEP (io), 146 IO207NB4F19 (io), 147 IO207PB4F19 (io), 152 IO192NB4F17 (io), 153 IO192PB4F17 (io), 154 IO191NB4F17 (io), 155 IO191PB4F17 (io), 158 IO190NB4F17 (io), 159 IO190PB4F17 (io), 160 IO185NB4F17 (io), 161 IO185PB4F17 (io), 164 IO184NB4F17 (io), 165 IO184PB4F17 (io), 166 IO183NB4F17 (io), 167 IO183PB4F17 (io), 170 IO182NB4F17 (io), 171 IO182PB4F17 (io), 172 IO181NB4F17 (io), 173 IO181PB4F17 (io)
part C pins: 2 VCCDA (power), 3 VCCA (power), 8 VCCIB7 (power), 14 VCCA (power), 20 VCCIB7 (power), 26 VCCIB7 (power), 32 VCCA (power), 38 VCCIB7 (power), 44 VCCDA (power), 50 VCCIB6 (power), 56 VCCA (power), 62 VCCIB6 (power), 68 VCCIB6 (power), 74 VCCA (power), 80 VCCIB6 (power), 87 VCCA (power), 90 VCCDA (power), 91 VCCDA (power), 96 VCCIB5 (power), 102 VCCA (power), 108 VCCIB5 (power), 114 VCCA (power), 116 VCCDA (power), 117 VCCDA (power), 120 VCCIB5 (power), 130 VCCDA (power), 131 VCCDA (power), 132 VCCDA (power), 134 PRD (out), 135 PRC (out), 144 VCCIB4 (power), 148 VCCDA (power), 149 VCCDA (power), 150 VCCA (power), 156 VCCIB4 (power), 162 VCCA (power), 168 VCCIB4 (power), 174 VCCDA (power), 175 VCCA (power), 178 VCCDA (power), 185 VCCIB3 (power), 191 VCCA (power), 197 VCCIB3 (power), 203 VCCIB3 (power), 209 VCCA (power), 215 VCCIB3 (power), 221 VCCDA (power), 227 VCCIB2 (power), 233 VCCA (power), 239 VCCIB2 (power), 245 VCCIB2 (power), 251 VCCA (power), 257 VCCIB2 (power), 263 VCCA (power), 266 VCCDA (power), 267 VPUMP (power), 268 VCCDA (power), 273 VCCIB1 (power), 279 VCCA (power), 285 VCCIB1 (power), 291 VCCA (power), 293 VCCDA (power), 294 VCCDA (power), 297 VCCIB1 (power), 307 VCCDA (power), 308 VCCDA (power), 309 VCCDA (power), 311 PRB (out), 312 PRA (out), 321 VCCIB0 (power), 327 VCCDA (power), 328 VCCDA (power), 329 VCCA (power), 333 VCCIB0 (power), 339 VCCA (power), 344 VCCIB0 (power), 346 VCCDA (power), 347 TDO (hiz), 348 TDI (in), 349 TCK (in), 350 TMS (in), 351 ~{TRST} (in)
part D pins: 1 GND (power), 9 GND (power), 15 GND (power), 21 GND (power), 27 GND (power), 33 GND (power), 39 GND (power), 45 GND (power), 51 GND (power), 57 GND (power), 63 GND (power), 69 GND (power), 75 GND (power), 81 GND (power), 88 GND (power), 89 GND (power), 97 GND (power), 103 GND (power), 109 GND (power), 115 GND (power), 121 GND (power), 133 GND (power), 145 GND (power), 151 GND (power), 157 GND (power), 163 GND (power), 169 GND (power), 176 GND (power), 177 GND (power), 186 GND (power), 192 GND (power), 198 GND (power), 204 GND (power), 210 GND (power), 216 GND (power), 222 GND (power), 228 GND (power), 234 GND (power), 240 GND (power), 246 GND (power), 252 GND (power), 258 GND (power), 264 GND (power), 265 GND (power), 274 GND (power), 280 GND (power), 286 GND (power), 292 GND (power), 298 GND (power), 310 GND (power), 322 GND (power), 330 GND (power), 334 GND (power), 340 GND (power), 345 GND (power), 352 GND (power)
part E pins: 124 NC, 125 NC, 126 NC, 127 NC, 138 NC, 139 NC, 140 NC, 141 NC, 301 NC, 302 NC, 303 NC, 304 NC, 315 NC, 316 NC, 317 NC, 318 NC
part A text: Bank 0; Bank 3; Bank 1; Bank 2
part B text: Bank 4; Bank 7; Bank 5; Bank 6

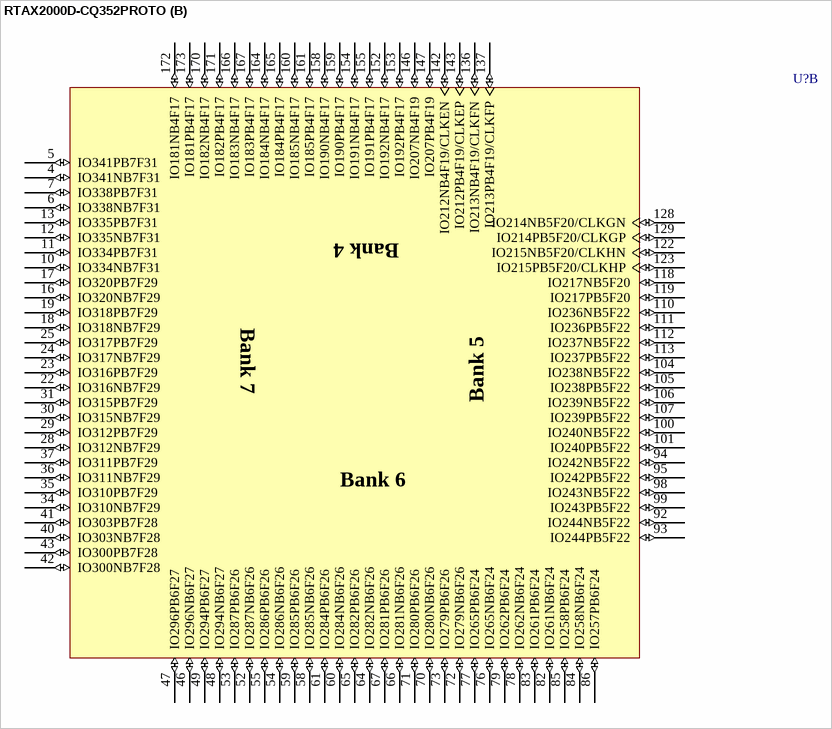
[diagram p9: symbol RTAX2000D-CQ352PROTO]

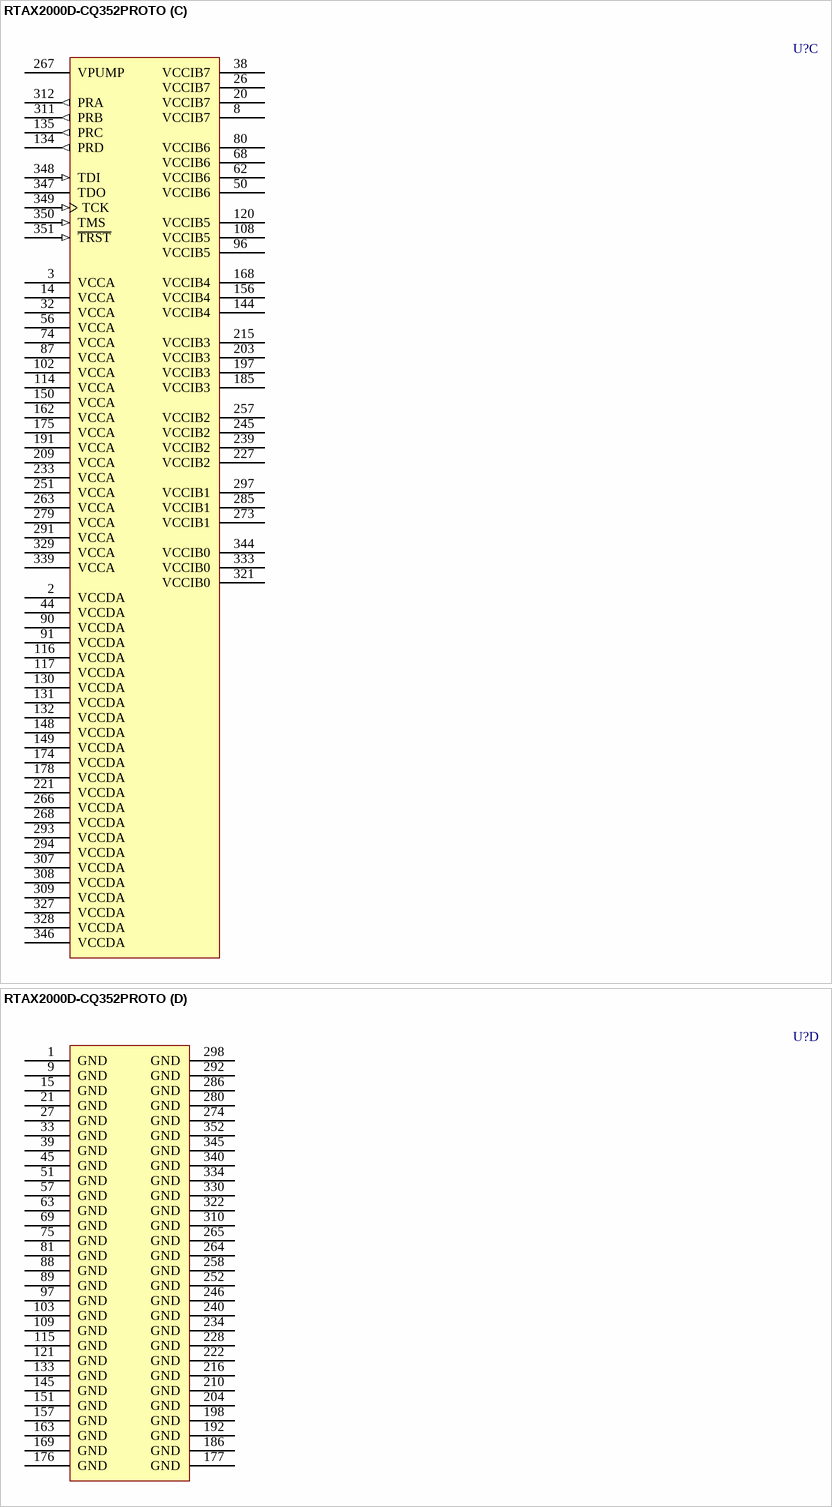
[diagram p10: symbol RTAX2000D-CQ352PROTO]

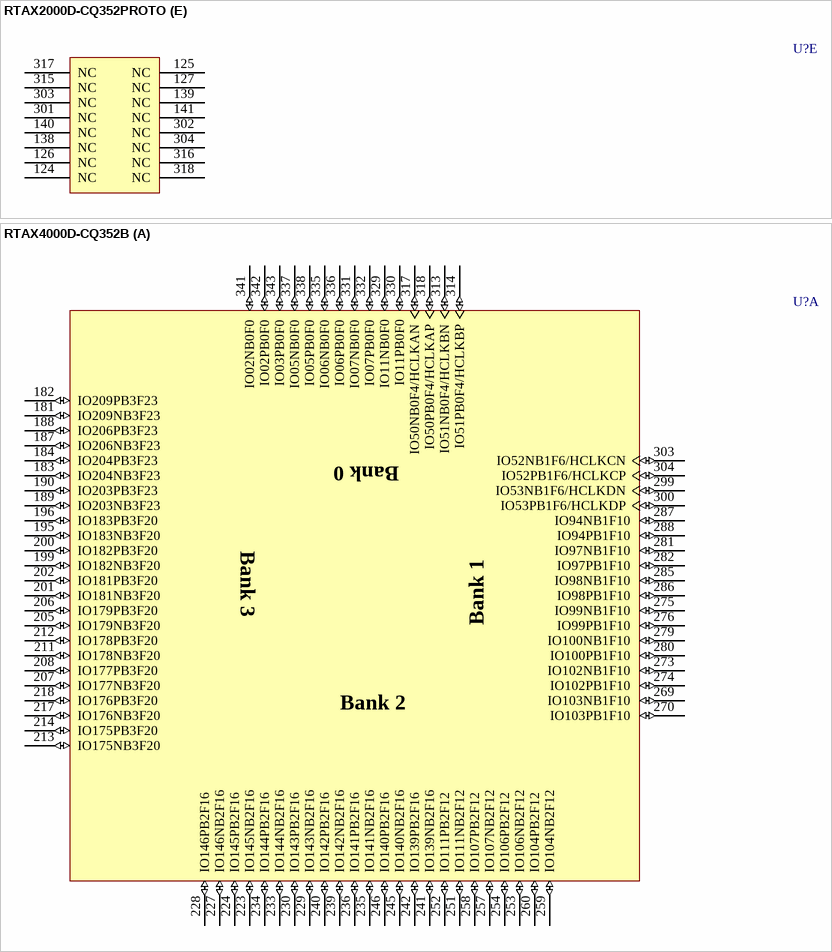
[diagram p11: symbols RTAX2000D-CQ352PROTO to RTAX4000D-CQ352B]

## RTAX2000D-CQ352PROTO
designator U?
RTAX-DSP RadTolerant FPGA, 2 Million Equivalent System Gates, 352-Pin CQFP, Standard Speed Grade, Prototype Unit; Published: 11-Dec-2009; DatasheetVersion: v0.2, Nov-2009; PackageVersion: ver11.2, Nov-2009; PackageReference: CQ352; Publisher: Altium Limited; PackageDescription: 352-Pin Ceramic Quad Flat Pack (CQFP), Cavity Up without Heat Sink; Code_JEDEC: MO-134-AE; ComponentLink1Description: RTAX-S/SL RadTolerant Datasheet; ComponentLink1URL: http://www.actel.com/documents/RTAXS_DS.pdf; ComponentLink2Description: Package Mechanical Drawings; ComponentLink2URL: http://www.actel.com/documents/PckgMechDrwngs.pdf; ComponentLink3Description: RTAX-DSP Documents; ComponentLink3URL: http://www.actel.com/products/milaero/rtaxdsp/docs.aspx; ComponentLink4Description: Actel.com Home; ComponentLink4URL: http://www.actel.com/
footprint CQ352_N (CQFP, 352-Leads, Body 48x48mm; Pitch 0.5mm, Gullwing Leadform, IPC Medium Density)
footprint CQ352_L (CQFP, 352-Leads, Body 48x48mm; Pitch 0.5mm, Gullwing Leadform, IPC High Density)
footprint CQ352_M (CQFP, 352-Leads, Body 48x48mm; Pitch 0.5mm, Gullwing Leadform, IPC Low Density)
part A pins: 179 IO167NB3F15 (io), 180 IO167PB3F15 (io), 181 IO165NB3F15 (io), 182 IO165PB3F15 (io), 183 IO161NB3F15 (io), 184 IO161PB3F15 (io), 187 IO163NB3F15 (io), 188 IO163PB3F15 (io), 189 IO149NB3F13 (io), 190 IO149PB3F13 (io), 193 IO147NB3F13 (io), 194 IO147PB3F13 (io), 195 IO148NB3F13 (io), 196 IO148PB3F13 (io), 199 IO145NB3F13 (io), 200 IO145PB3F13 (io), 201 IO146NB3F13 (io), 202 IO146PB3F13 (io), 205 IO141NB3F13 (io), 206 IO141PB3F13 (io), 207 IO142NB3F13 (io), 208 IO142PB3F13 (io), 211 IO139NB3F13 (io), 212 IO139PB3F13 (io), 213 IO137NB3F12 (io), 214 IO137PB3F12 (io), 217 IO132NB3F12 (io), 218 IO132PB3F12 (io), 219 IO129NB3F12 (io), 220 IO129PB3F12 (io), 223 IO117NB2F10 (io), 224 IO117PB2F10 (io), 225 IO115NB2F10 (io), 226 IO115PB2F10 (io), 229 IO114NB2F10 (io), 230 IO114PB2F10 (io), 231 IO113NB2F10 (io), 232 IO113PB2F10 (io), 235 IO112NB2F10 (io), 236 IO112PB2F10 (io), 237 IO111NB2F10 (io), 238 IO111PB2F10 (io), 241 IO110NB2F10 (io), 242 IO110PB2F10 (io), 243 IO107NB2F10 (io), 244 IO107PB2F10 (io), 247 IO100NB2F9 (io), 248 IO100PB2F9 (io), 249 IO99NB2F9 (io), 250 IO99PB2F9 (io), 253 IO91NB2F8 (io), 254 IO91PB2F8 (io), 255 IO88NB2F8 (io), 256 IO88PB2F8 (io), 259 IO89NB2F8 (io), 260 IO89PB2F8 (io), 261 IO87NB2F8 (io), 262 IO87PB2F8 (io), 269 IO73NB1F6 (io), 270 IO73PB1F6 (io), 271 IO74NB1F6 (io), 272 IO74PB1F6 (io), 275 IO69NB1F6 (io), 276 IO69PB1F6 (io), 277 IO71NB1F6 (io), 278 IO71PB1F6 (io), 281 IO70NB1F6 (io), 282 IO70PB1F6 (io), 283 IO65NB1F6 (io), 284 IO65PB1F6 (io), 287 IO68NB1F6 (io), 288 IO68PB1F6 (io), 289 IO66NB1F6 (io), 290 IO66PB1F6 (io), 295 IO48NB1F4 (io), 296 IO48PB1F4 (io), 299 IO44NB1F4/HCLKDN (io), 300 IO44PB1F4/HCLKDP (io), 305 IO43NB1F4/HCLKCN (io), 306 IO43PB1F4/HCLKCP (io), 313 IO42NB0F3/HCLKBN (io), 314 IO42PB0F3/HCLKBP (io), 319 IO41NB0F3/HCLKAN (io), 320 IO41PB0F3/HCLKAP (io), 323 IO38NB0F3 (io), 324 IO38PB0F3 (io), 325 IO37NB0F3 (io), 326 IO37PB0F3 (io), 331 IO08NB0F0 (io), 332 IO08PB0F0 (io), 335 IO05NB0F0 (io), 336 IO05PB0F0 (io), 337 IO04NB0F0 (io), 338 IO04PB0F0 (io), 341 IO01NB0F0 (io), 342 IO01PB0F0 (io), 343 IO02PB0F0 (io)
part B pins: 4 IO341NB7F31 (io), 5 IO341PB7F31 (io), 6 IO338NB7F31 (io), 7 IO338PB7F31 (io), 10 IO334NB7F31 (io), 11 IO334PB7F31 (io), 12 IO335NB7F31 (io), 13 IO335PB7F31 (io), 16 IO320NB7F29 (io), 17 IO320PB7F29 (io), 18 IO318NB7F29 (io), 19 IO318PB7F29 (io), 22 IO316NB7F29 (io), 23 IO316PB7F29 (io), 24 IO317NB7F29 (io), 25 IO317PB7F29 (io), 28 IO312NB7F29 (io), 29 IO312PB7F29 (io), 30 IO315NB7F29 (io), 31 IO315PB7F29 (io), 34 IO310NB7F29 (io), 35 IO310PB7F29 (io), 36 IO311NB7F29 (io), 37 IO311PB7F29 (io), 40 IO303NB7F28 (io), 41 IO303PB7F28 (io), 42 IO300NB7F28 (io), 43 IO300PB7F28 (io), 46 IO296NB6F27 (io), 47 IO296PB6F27 (io), 48 IO294NB6F27 (io), 49 IO294PB6F27 (io), 52 IO287NB6F26 (io), 53 IO287PB6F26 (io), 54 IO286NB6F26 (io), 55 IO286PB6F26 (io), 58 IO285NB6F26 (io), 59 IO285PB6F26 (io), 60 IO284NB6F26 (io), 61 IO284PB6F26 (io), 64 IO282NB6F26 (io), 65 IO282PB6F26 (io), 66 IO281NB6F26 (io), 67 IO281PB6F26 (io), 70 IO280NB6F26 (io), 71 IO280PB6F26 (io), 72 IO279NB6F26 (io), 73 IO279PB6F26 (io), 76 IO265NB6F24 (io), 77 IO265PB6F24 (io), 78 IO262NB6F24 (io), 79 IO262PB6F24 (io), 82 IO261NB6F24 (io), 83 IO261PB6F24 (io), 84 IO258NB6F24 (io), 85 IO258PB6F24 (io), 86 IO257PB6F24 (io), 92 IO244NB5F22 (io), 93 IO244PB5F22 (io), 94 IO242NB5F22 (io), 95 IO242PB5F22 (io), 98 IO243NB5F22 (io), 99 IO243PB5F22 (io), 100 IO240NB5F22 (io), 101 IO240PB5F22 (io), 104 IO238NB5F22 (io), 105 IO238PB5F22 (io), 106 IO239NB5F22 (io), 107 IO239PB5F22 (io), 110 IO236NB5F22 (io), 111 IO236PB5F22 (io), 112 IO237NB5F22 (io), 113 IO237PB5F22 (io), 118 IO217NB5F20 (io), 119 IO217PB5F20 (io), 122 IO215NB5F20/CLKHN (io), 123 IO215PB5F20/CLKHP (io), 128 IO214NB5F20/CLKGN (io), 129 IO214PB5F20/CLKGP (io), 136 IO213NB4F19/CLKFN (io), 137 IO213PB4F19/CLKFP (io), 142 IO212NB4F19/CLKEN (io), 143 IO212PB4F19/CLKEP (io), 146 IO207NB4F19 (io), 147 IO207PB4F19 (io), 152 IO192NB4F17 (io), 153 IO192PB4F17 (io), 154 IO191NB4F17 (io), 155 IO191PB4F17 (io), 158 IO190NB4F17 (io), 159 IO190PB4F17 (io), 160 IO185NB4F17 (io), 161 IO185PB4F17 (io), 164 IO184NB4F17 (io), 165 IO184PB4F17 (io), 166 IO183NB4F17 (io), 167 IO183PB4F17 (io), 170 IO182NB4F17 (io), 171 IO182PB4F17 (io), 172 IO181NB4F17 (io), 173 IO181PB4F17 (io)
part C pins: 2 VCCDA (power), 3 VCCA (power), 8 VCCIB7 (power), 14 VCCA (power), 20 VCCIB7 (power), 26 VCCIB7 (power), 32 VCCA (power), 38 VCCIB7 (power), 44 VCCDA (power), 50 VCCIB6 (power), 56 VCCA (power), 62 VCCIB6 (power), 68 VCCIB6 (power), 74 VCCA (power), 80 VCCIB6 (power), 87 VCCA (power), 90 VCCDA (power), 91 VCCDA (power), 96 VCCIB5 (power), 102 VCCA (power), 108 VCCIB5 (power), 114 VCCA (power), 116 VCCDA (power), 117 VCCDA (power), 120 VCCIB5 (power), 130 VCCDA (power), 131 VCCDA (power), 132 VCCDA (power), 134 PRD (out), 135 PRC (out), 144 VCCIB4 (power), 148 VCCDA (power), 149 VCCDA (power), 150 VCCA (power), 156 VCCIB4 (power), 162 VCCA (power), 168 VCCIB4 (power), 174 VCCDA (power), 175 VCCA (power), 178 VCCDA (power), 185 VCCIB3 (power), 191 VCCA (power), 197 VCCIB3 (power), 203 VCCIB3 (power), 209 VCCA (power), 215 VCCIB3 (power), 221 VCCDA (power), 227 VCCIB2 (power), 233 VCCA (power), 239 VCCIB2 (power), 245 VCCIB2 (power), 251 VCCA (power), 257 VCCIB2 (power), 263 VCCA (power), 266 VCCDA (power), 267 VPUMP (power), 268 VCCDA (power), 273 VCCIB1 (power), 279 VCCA (power), 285 VCCIB1 (power), 291 VCCA (power), 293 VCCDA (power), 294 VCCDA (power), 297 VCCIB1 (power), 307 VCCDA (power), 308 VCCDA (power), 309 VCCDA (power), 311 PRB (out), 312 PRA (out), 321 VCCIB0 (power), 327 VCCDA (power), 328 VCCDA (power), 329 VCCA (power), 333 VCCIB0 (power), 339 VCCA (power), 344 VCCIB0 (power), 346 VCCDA (power), 347 TDO (hiz), 348 TDI (in), 349 TCK (in), 350 TMS (in), 351 ~{TRST} (in)
part D pins: 1 GND (power), 9 GND (power), 15 GND (power), 21 GND (power), 27 GND (power), 33 GND (power), 39 GND (power), 45 GND (power), 51 GND (power), 57 GND (power), 63 GND (power), 69 GND (power), 75 GND (power), 81 GND (power), 88 GND (power), 89 GND (power), 97 GND (power), 103 GND (power), 109 GND (power), 115 GND (power), 121 GND (power), 133 GND (power), 145 GND (power), 151 GND (power), 157 GND (power), 163 GND (power), 169 GND (power), 176 GND (power), 177 GND (power), 186 GND (power), 192 GND (power), 198 GND (power), 204 GND (power), 210 GND (power), 216 GND (power), 222 GND (power), 228 GND (power), 234 GND (power), 240 GND (power), 246 GND (power), 252 GND (power), 258 GND (power), 264 GND (power), 265 GND (power), 274 GND (power), 280 GND (power), 286 GND (power), 292 GND (power), 298 GND (power), 310 GND (power), 322 GND (power), 330 GND (power), 334 GND (power), 340 GND (power), 345 GND (power), 352 GND (power)
part E pins: 124 NC, 125 NC, 126 NC, 127 NC, 138 NC, 139 NC, 140 NC, 141 NC, 301 NC, 302 NC, 303 NC, 304 NC, 315 NC, 316 NC, 317 NC, 318 NC
part A text: Bank 0; Bank 3; Bank 1; Bank 2
part B text: Bank 4; Bank 7; Bank 5; Bank 6

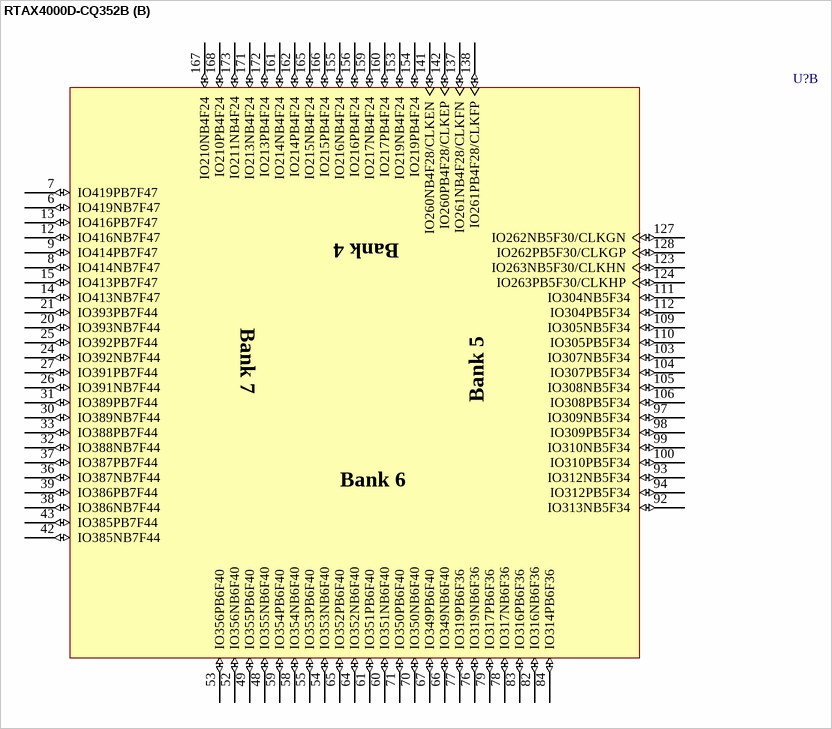
[diagram p12: symbol RTAX4000D-CQ352B]

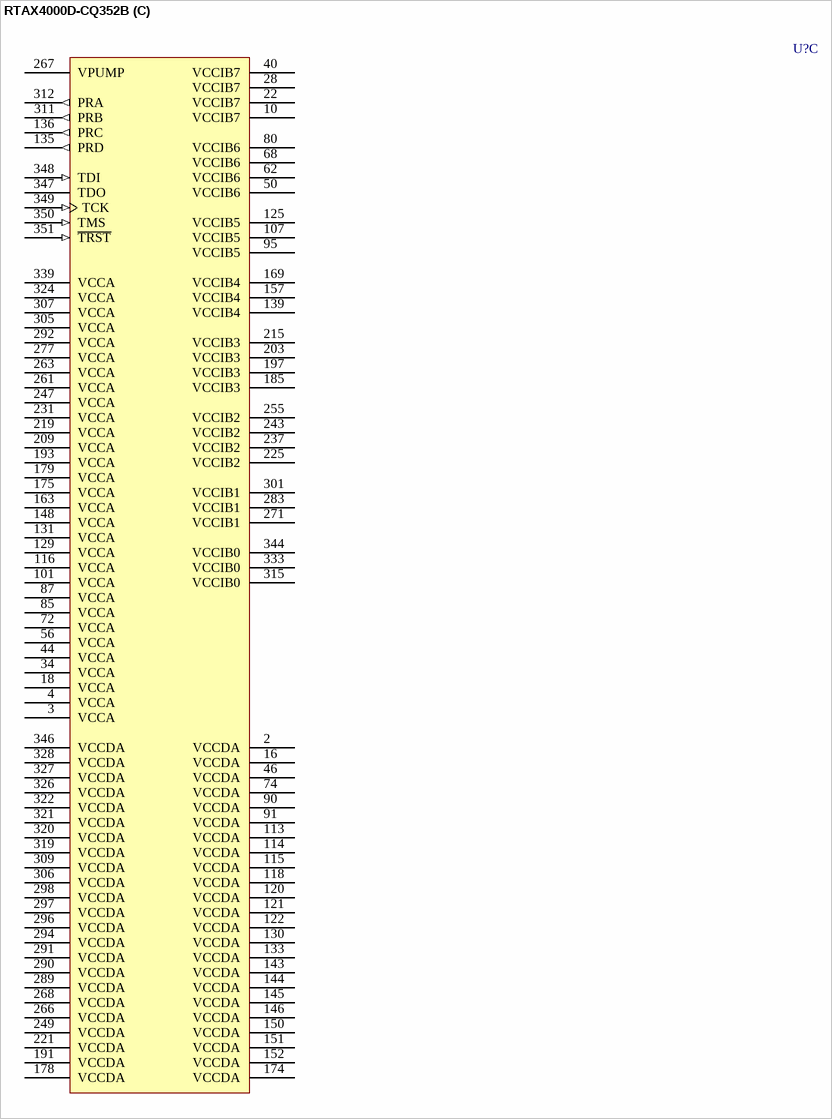
[diagram p13: symbol RTAX4000D-CQ352B]

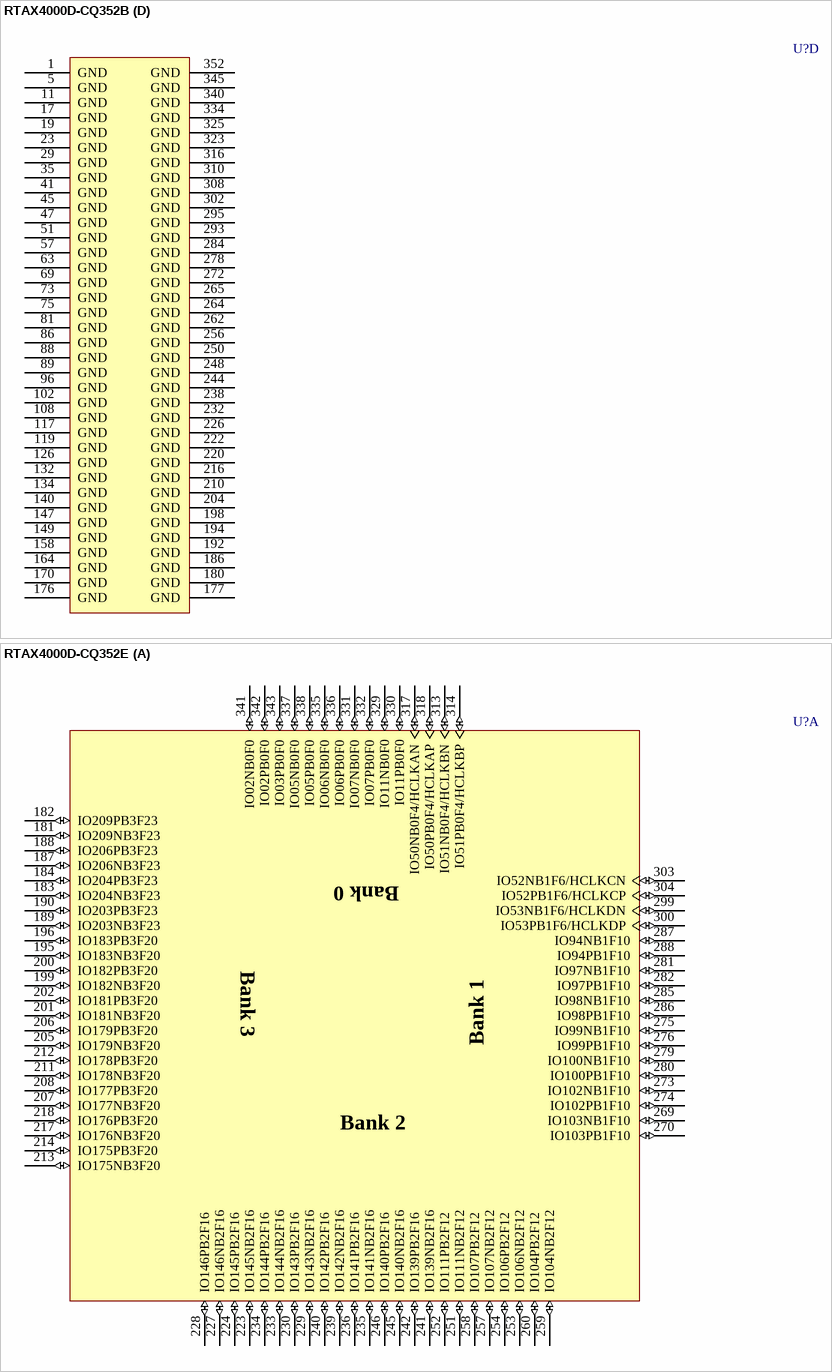
[diagram p14: symbols RTAX4000D-CQ352B to RTAX4000D-CQ352E]

## RTAX4000D-CQ352B
designator U?
RTAX-DSP RadTolerant FPGA, 4 Million Equivalent System Gates, 352-Pin CQFP, Standard Speed Grade, MIL-STD-883 Class B; Published: 11-Dec-2009; DatasheetVersion: v0.2, Nov-2009; PackageVersion: ver11.2, Nov-2009; PackageReference: CQ352; Publisher: Altium Limited; PackageDescription: 352-Pin Ceramic Quad Flat Pack (CQFP), Cavity Up without Heat Sink; Code_JEDEC: MO-134-AE; ComponentLink1Description: RTAX-S/SL RadTolerant Datasheet; ComponentLink1URL: http://www.actel.com/documents/RTAXS_DS.pdf; ComponentLink2Description: Package Mechanical Drawings; ComponentLink2URL: http://www.actel.com/documents/PckgMechDrwngs.pdf; ComponentLink3Description: RTAX-DSP Documents; ComponentLink3URL: http://www.actel.com/products/milaero/rtaxdsp/docs.aspx; ComponentLink4Description: Actel.com Home; ComponentLink4URL: http://www.actel.com/
footprint CQ352_N (CQFP, 352-Leads, Body 48x48mm; Pitch 0.5mm, Gullwing Leadform, IPC Medium Density)
footprint CQ352_L (CQFP, 352-Leads, Body 48x48mm; Pitch 0.5mm, Gullwing Leadform, IPC High Density)
footprint CQ352_M (CQFP, 352-Leads, Body 48x48mm; Pitch 0.5mm, Gullwing Leadform, IPC Low Density)
part A pins: 181 IO209NB3F23 (io), 182 IO209PB3F23 (io), 183 IO204NB3F23 (io), 184 IO204PB3F23 (io), 187 IO206NB3F23 (io), 188 IO206PB3F23 (io), 189 IO203NB3F23 (io), 190 IO203PB3F23 (io), 195 IO183NB3F20 (io), 196 IO183PB3F20 (io), 199 IO182NB3F20 (io), 200 IO182PB3F20 (io), 201 IO181NB3F20 (io), 202 IO181PB3F20 (io), 205 IO179NB3F20 (io), 206 IO179PB3F20 (io), 207 IO177NB3F20 (io), 208 IO177PB3F20 (io), 211 IO178NB3F20 (io), 212 IO178PB3F20 (io), 213 IO175NB3F20 (io), 214 IO175PB3F20 (io), 217 IO176NB3F20 (io), 218 IO176PB3F20 (io), 223 IO145NB2F16 (io), 224 IO145PB2F16 (io), 227 IO146NB2F16 (io), 228 IO146PB2F16 (io), 229 IO143NB2F16 (io), 230 IO143PB2F16 (io), 233 IO144NB2F16 (io), 234 IO144PB2F16 (io), 235 IO141NB2F16 (io), 236 IO141PB2F16 (io), 239 IO142NB2F16 (io), 240 IO142PB2F16 (io), 241 IO139NB2F16 (io), 242 IO139PB2F16 (io), 245 IO140NB2F16 (io), 246 IO140PB2F16 (io), 251 IO111NB2F12 (io), 252 IO111PB2F12 (io), 253 IO106NB2F12 (io), 254 IO106PB2F12 (io), 257 IO107NB2F12 (io), 258 IO107PB2F12 (io), 259 IO104NB2F12 (io), 260 IO104PB2F12 (io), 269 IO103NB1F10 (io), 270 IO103PB1F10 (io), 273 IO102NB1F10 (io), 274 IO102PB1F10 (io), 275 IO99NB1F10 (io), 276 IO99PB1F10 (io), 279 IO100NB1F10 (io), 280 IO100PB1F10 (io), 281 IO97NB1F10 (io), 282 IO97PB1F10 (io), 285 IO98NB1F10 (io), 286 IO98PB1F10 (io), 287 IO94NB1F10 (io), 288 IO94PB1F10 (io), 299 IO53NB1F6/HCLKDN (io), 300 IO53PB1F6/HCLKDP (io), 303 IO52NB1F6/HCLKCN (io), 304 IO52PB1F6/HCLKCP (io), 313 IO51NB0F4/HCLKBN (io), 314 IO51PB0F4/HCLKBP (io), 317 IO50NB0F4/HCLKAN (io), 318 IO50PB0F4/HCLKAP (io), 329 IO11NB0F0 (io), 330 IO11PB0F0 (io), 331 IO07NB0F0 (io), 332 IO07PB0F0 (io), 335 IO06NB0F0 (io), 336 IO06PB0F0 (io), 337 IO05NB0F0 (io), 338 IO05PB0F0 (io), 341 IO02NB0F0 (io), 342 IO02PB0F0 (io), 343 IO03PB0F0 (io)
part B pins: 6 IO419NB7F47 (io), 7 IO419PB7F47 (io), 8 IO414NB7F47 (io), 9 IO414PB7F47 (io), 12 IO416NB7F47 (io), 13 IO416PB7F47 (io), 14 IO413NB7F47 (io), 15 IO413PB7F47 (io), 20 IO393NB7F44 (io), 21 IO393PB7F44 (io), 24 IO392NB7F44 (io), 25 IO392PB7F44 (io), 26 IO391NB7F44 (io), 27 IO391PB7F44 (io), 30 IO389NB7F44 (io), 31 IO389PB7F44 (io), 32 IO388NB7F44 (io), 33 IO388PB7F44 (io), 36 IO387NB7F44 (io), 37 IO387PB7F44 (io), 38 IO386NB7F44 (io), 39 IO386PB7F44 (io), 42 IO385NB7F44 (io), 43 IO385PB7F44 (io), 48 IO355NB6F40 (io), 49 IO355PB6F40 (io), 52 IO356NB6F40 (io), 53 IO356PB6F40 (io), 54 IO353NB6F40 (io), 55 IO353PB6F40 (io), 58 IO354NB6F40 (io), 59 IO354PB6F40 (io), 60 IO351NB6F40 (io), 61 IO351PB6F40 (io), 64 IO352NB6F40 (io), 65 IO352PB6F40 (io), 66 IO349NB6F40 (io), 67 IO349PB6F40 (io), 70 IO350NB6F40 (io), 71 IO350PB6F40 (io), 76 IO319NB6F36 (io), 77 IO319PB6F36 (io), 78 IO317NB6F36 (io), 79 IO317PB6F36 (io), 82 IO316NB6F36 (io), 83 IO316PB6F36 (io), 84 IO314PB6F36 (io), 92 IO313NB5F34 (io), 93 IO312NB5F34 (io), 94 IO312PB5F34 (io), 97 IO309NB5F34 (io), 98 IO309PB5F34 (io), 99 IO310NB5F34 (io), 100 IO310PB5F34 (io), 103 IO307NB5F34 (io), 104 IO307PB5F34 (io), 105 IO308NB5F34 (io), 106 IO308PB5F34 (io), 109 IO305NB5F34 (io), 110 IO305PB5F34 (io), 111 IO304NB5F34 (io), 112 IO304PB5F34 (io), 123 IO263NB5F30/CLKHN (io), 124 IO263PB5F30/CLKHP (io), 127 IO262NB5F30/CLKGN (io), 128 IO262PB5F30/CLKGP (io), 137 IO261NB4F28/CLKFN (io), 138 IO261PB4F28/CLKFP (io), 141 IO260NB4F28/CLKEN (io), 142 IO260PB4F28/CLKEP (io), 153 IO219NB4F24 (io), 154 IO219PB4F24 (io), 155 IO216NB4F24 (io), 156 IO216PB4F24 (io), 159 IO217NB4F24 (io), 160 IO217PB4F24 (io), 161 IO214NB4F24 (io), 162 IO214PB4F24 (io), 165 IO215NB4F24 (io), 166 IO215PB4F24 (io), 167 IO210NB4F24 (io), 168 IO210PB4F24 (io), 171 IO213NB4F24 (io), 172 IO213PB4F24 (io), 173 IO211NB4F24 (io)
part C pins: 2 VCCDA (power), 3 VCCA (power), 4 VCCA (power), 10 VCCIB7 (power), 16 VCCDA (power), 18 VCCA (power), 22 VCCIB7 (power), 28 VCCIB7 (power), 34 VCCA (power), 40 VCCIB7 (power), 44 VCCA (power), 46 VCCDA (power), 50 VCCIB6 (power), 56 VCCA (power), 62 VCCIB6 (power), 68 VCCIB6 (power), 72 VCCA (power), 74 VCCDA (power), 80 VCCIB6 (power), 85 VCCA (power), 87 VCCA (power), 90 VCCDA (power), 91 VCCDA (power), 95 VCCIB5 (power), 101 VCCA (power), 107 VCCIB5 (power), 113 VCCDA (power), 114 VCCDA (power), 115 VCCDA (power), 116 VCCA (power), 118 VCCDA (power), 120 VCCDA (power), 121 VCCDA (power), 122 VCCDA (power), 125 VCCIB5 (power), 129 VCCA (power), 130 VCCDA (power), 131 VCCA (power), 133 VCCDA (power), 135 PRD (out), 136 PRC (out), 139 VCCIB4 (power), 143 VCCDA (power), 144 VCCDA (power), 145 VCCDA (power), 146 VCCDA (power), 148 VCCA (power), 150 VCCDA (power), 151 VCCDA (power), 152 VCCDA (power), 157 VCCIB4 (power), 163 VCCA (power), 169 VCCIB4 (power), 174 VCCDA (power), 175 VCCA (power), 178 VCCDA (power), 179 VCCA (power), 185 VCCIB3 (power), 191 VCCDA (power), 193 VCCA (power), 197 VCCIB3 (power), 203 VCCIB3 (power), 209 VCCA (power), 215 VCCIB3 (power), 219 VCCA (power), 221 VCCDA (power), 225 VCCIB2 (power), 231 VCCA (power), 237 VCCIB2 (power), 243 VCCIB2 (power), 247 VCCA (power), 249 VCCDA (power), 255 VCCIB2 (power), 261 VCCA (power), 263 VCCA (power), 266 VCCDA (power), 267 VPUMP (power), 268 VCCDA (power), 271 VCCIB1 (power), 277 VCCA (power), 283 VCCIB1 (power), 289 VCCDA (power), 290 VCCDA (power), 291 VCCDA (power), 292 VCCA (power), 294 VCCDA (power), 296 VCCDA (power), 297 VCCDA (power), 298 VCCDA (power), 301 VCCIB1 (power), 305 VCCA (power), 306 VCCDA (power), 307 VCCA (power), 309 VCCDA (power), 311 PRB (out), 312 PRA (out), 315 VCCIB0 (power), 319 VCCDA (power), 320 VCCDA (power), 321 VCCDA (power), 322 VCCDA (power), 324 VCCA (power), 326 VCCDA (power), 327 VCCDA (power), 328 VCCDA (power), 333 VCCIB0 (power), 339 VCCA (power), 344 VCCIB0 (power), 346 VCCDA (power), 347 TDO (hiz), 348 TDI (in), 349 TCK (in), 350 TMS (in), 351 ~{TRST} (in)
part D pins: 1 GND (power), 5 GND (power), 11 GND (power), 17 GND (power), 19 GND (power), 23 GND (power), 29 GND (power), 35 GND (power), 41 GND (power), 45 GND (power), 47 GND (power), 51 GND (power), 57 GND (power), 63 GND (power), 69 GND (power), 73 GND (power), 75 GND (power), 81 GND (power), 86 GND (power), 88 GND (power), 89 GND (power), 96 GND (power), 102 GND (power), 108 GND (power), 117 GND (power), 119 GND (power), 126 GND (power), 132 GND (power), 134 GND (power), 140 GND (power), 147 GND (power), 149 GND (power), 158 GND (power), 164 GND (power), 170 GND (power), 176 GND (power), 177 GND (power), 180 GND (power), 186 GND (power), 192 GND (power), 194 GND (power), 198 GND (power), 204 GND (power), 210 GND (power), 216 GND (power), 220 GND (power), 222 GND (power), 226 GND (power), 232 GND (power), 238 GND (power), 244 GND (power), 248 GND (power), 250 GND (power), 256 GND (power), 262 GND (power), 264 GND (power), 265 GND (power), 272 GND (power), 278 GND (power), 284 GND (power), 293 GND (power), 295 GND (power), 302 GND (power), 308 GND (power), 310 GND (power), 316 GND (power), 323 GND (power), 325 GND (power), 334 GND (power), 340 GND (power), 345 GND (power), 352 GND (power)
part A text: Bank 0; Bank 3; Bank 1; Bank 2
part B text: Bank 4; Bank 7; Bank 5; Bank 6

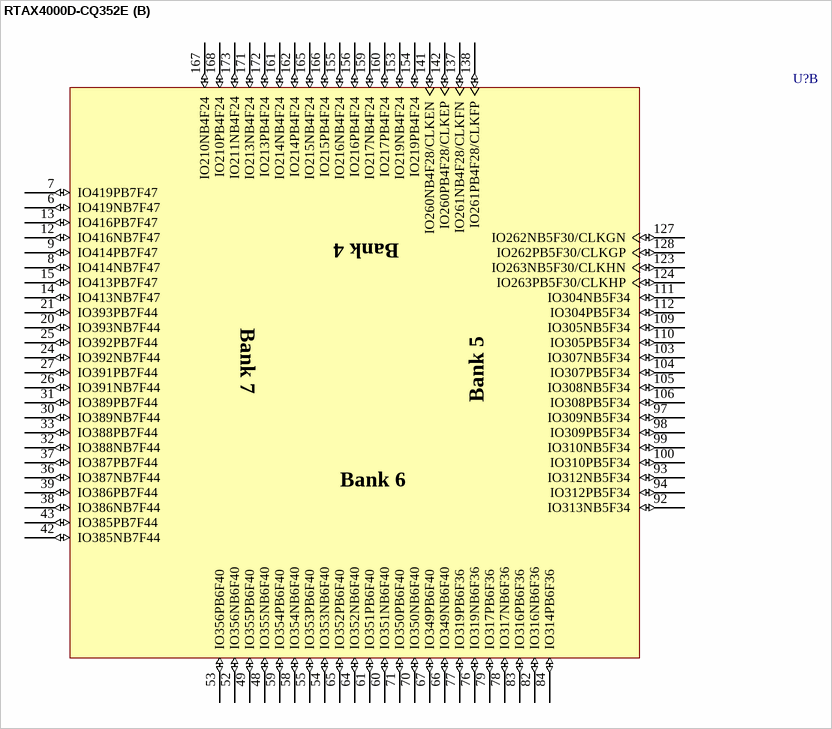
[diagram p15: symbol RTAX4000D-CQ352E]

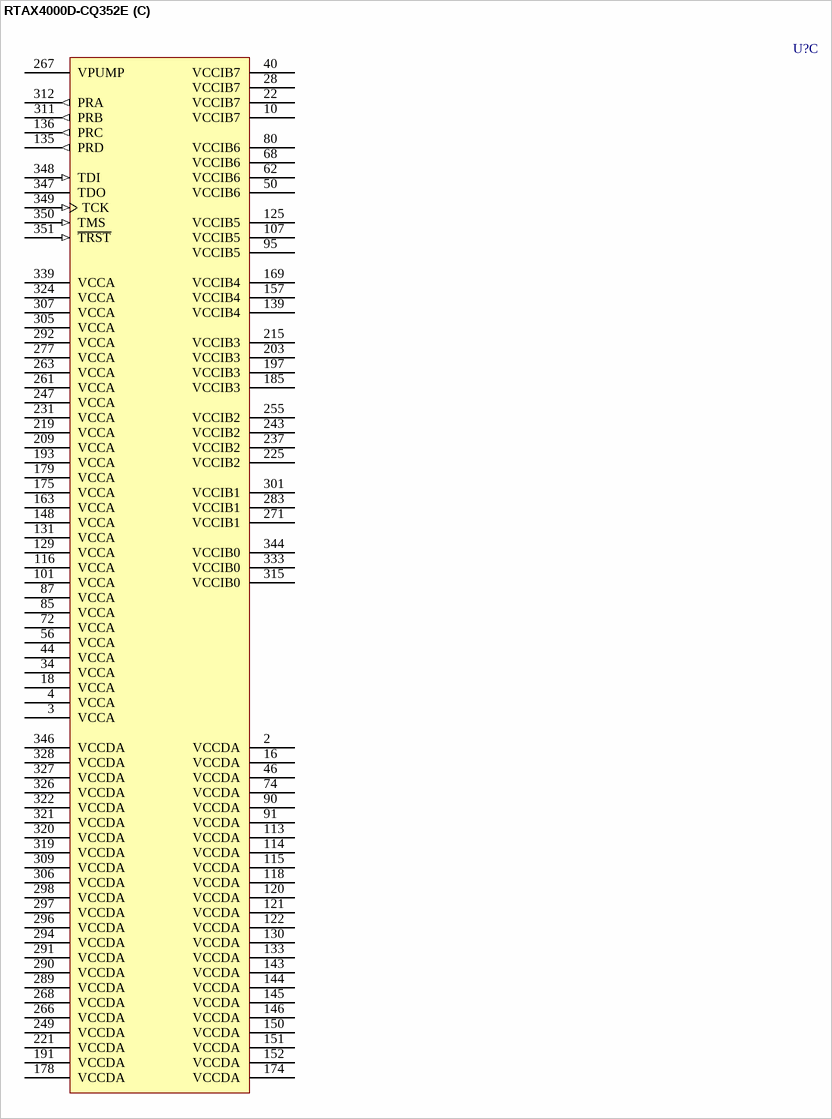
[diagram p16: symbol RTAX4000D-CQ352E]

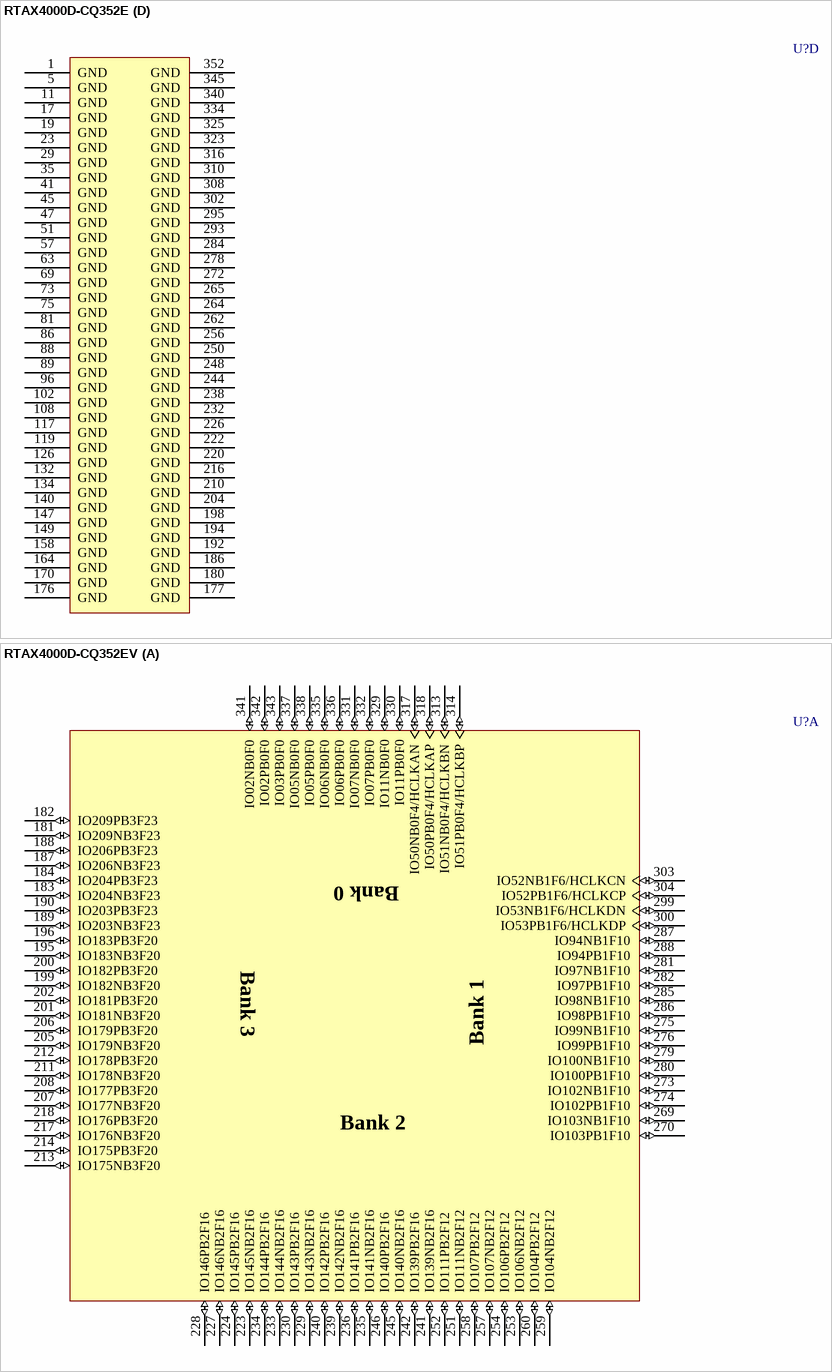
[diagram p17: symbols RTAX4000D-CQ352E to RTAX4000D-CQ352EV]

## RTAX4000D-CQ352E
designator U?
RTAX-DSP RadTolerant FPGA, 4 Million Equivalent System Gates, 352-Pin CQFP, Standard Speed Grade, E-Flow (Space Level Flow); Published: 11-Dec-2009; DatasheetVersion: v0.2, Nov-2009; PackageVersion: ver11.2, Nov-2009; PackageReference: CQ352; Publisher: Altium Limited; PackageDescription: 352-Pin Ceramic Quad Flat Pack (CQFP), Cavity Up without Heat Sink; Code_JEDEC: MO-134-AE; ComponentLink1Description: RTAX-S/SL RadTolerant Datasheet; ComponentLink1URL: http://www.actel.com/documents/RTAXS_DS.pdf; ComponentLink2Description: Package Mechanical Drawings; ComponentLink2URL: http://www.actel.com/documents/PckgMechDrwngs.pdf; ComponentLink3Description: RTAX-DSP Documents; ComponentLink3URL: http://www.actel.com/products/milaero/rtaxdsp/docs.aspx; ComponentLink4Description: Actel.com Home; ComponentLink4URL: http://www.actel.com/
footprint CQ352_N (CQFP, 352-Leads, Body 48x48mm; Pitch 0.5mm, Gullwing Leadform, IPC Medium Density)
footprint CQ352_L (CQFP, 352-Leads, Body 48x48mm; Pitch 0.5mm, Gullwing Leadform, IPC High Density)
footprint CQ352_M (CQFP, 352-Leads, Body 48x48mm; Pitch 0.5mm, Gullwing Leadform, IPC Low Density)
part A pins: 181 IO209NB3F23 (io), 182 IO209PB3F23 (io), 183 IO204NB3F23 (io), 184 IO204PB3F23 (io), 187 IO206NB3F23 (io), 188 IO206PB3F23 (io), 189 IO203NB3F23 (io), 190 IO203PB3F23 (io), 195 IO183NB3F20 (io), 196 IO183PB3F20 (io), 199 IO182NB3F20 (io), 200 IO182PB3F20 (io), 201 IO181NB3F20 (io), 202 IO181PB3F20 (io), 205 IO179NB3F20 (io), 206 IO179PB3F20 (io), 207 IO177NB3F20 (io), 208 IO177PB3F20 (io), 211 IO178NB3F20 (io), 212 IO178PB3F20 (io), 213 IO175NB3F20 (io), 214 IO175PB3F20 (io), 217 IO176NB3F20 (io), 218 IO176PB3F20 (io), 223 IO145NB2F16 (io), 224 IO145PB2F16 (io), 227 IO146NB2F16 (io), 228 IO146PB2F16 (io), 229 IO143NB2F16 (io), 230 IO143PB2F16 (io), 233 IO144NB2F16 (io), 234 IO144PB2F16 (io), 235 IO141NB2F16 (io), 236 IO141PB2F16 (io), 239 IO142NB2F16 (io), 240 IO142PB2F16 (io), 241 IO139NB2F16 (io), 242 IO139PB2F16 (io), 245 IO140NB2F16 (io), 246 IO140PB2F16 (io), 251 IO111NB2F12 (io), 252 IO111PB2F12 (io), 253 IO106NB2F12 (io), 254 IO106PB2F12 (io), 257 IO107NB2F12 (io), 258 IO107PB2F12 (io), 259 IO104NB2F12 (io), 260 IO104PB2F12 (io), 269 IO103NB1F10 (io), 270 IO103PB1F10 (io), 273 IO102NB1F10 (io), 274 IO102PB1F10 (io), 275 IO99NB1F10 (io), 276 IO99PB1F10 (io), 279 IO100NB1F10 (io), 280 IO100PB1F10 (io), 281 IO97NB1F10 (io), 282 IO97PB1F10 (io), 285 IO98NB1F10 (io), 286 IO98PB1F10 (io), 287 IO94NB1F10 (io), 288 IO94PB1F10 (io), 299 IO53NB1F6/HCLKDN (io), 300 IO53PB1F6/HCLKDP (io), 303 IO52NB1F6/HCLKCN (io), 304 IO52PB1F6/HCLKCP (io), 313 IO51NB0F4/HCLKBN (io), 314 IO51PB0F4/HCLKBP (io), 317 IO50NB0F4/HCLKAN (io), 318 IO50PB0F4/HCLKAP (io), 329 IO11NB0F0 (io), 330 IO11PB0F0 (io), 331 IO07NB0F0 (io), 332 IO07PB0F0 (io), 335 IO06NB0F0 (io), 336 IO06PB0F0 (io), 337 IO05NB0F0 (io), 338 IO05PB0F0 (io), 341 IO02NB0F0 (io), 342 IO02PB0F0 (io), 343 IO03PB0F0 (io)
part B pins: 6 IO419NB7F47 (io), 7 IO419PB7F47 (io), 8 IO414NB7F47 (io), 9 IO414PB7F47 (io), 12 IO416NB7F47 (io), 13 IO416PB7F47 (io), 14 IO413NB7F47 (io), 15 IO413PB7F47 (io), 20 IO393NB7F44 (io), 21 IO393PB7F44 (io), 24 IO392NB7F44 (io), 25 IO392PB7F44 (io), 26 IO391NB7F44 (io), 27 IO391PB7F44 (io), 30 IO389NB7F44 (io), 31 IO389PB7F44 (io), 32 IO388NB7F44 (io), 33 IO388PB7F44 (io), 36 IO387NB7F44 (io), 37 IO387PB7F44 (io), 38 IO386NB7F44 (io), 39 IO386PB7F44 (io), 42 IO385NB7F44 (io), 43 IO385PB7F44 (io), 48 IO355NB6F40 (io), 49 IO355PB6F40 (io), 52 IO356NB6F40 (io), 53 IO356PB6F40 (io), 54 IO353NB6F40 (io), 55 IO353PB6F40 (io), 58 IO354NB6F40 (io), 59 IO354PB6F40 (io), 60 IO351NB6F40 (io), 61 IO351PB6F40 (io), 64 IO352NB6F40 (io), 65 IO352PB6F40 (io), 66 IO349NB6F40 (io), 67 IO349PB6F40 (io), 70 IO350NB6F40 (io), 71 IO350PB6F40 (io), 76 IO319NB6F36 (io), 77 IO319PB6F36 (io), 78 IO317NB6F36 (io), 79 IO317PB6F36 (io), 82 IO316NB6F36 (io), 83 IO316PB6F36 (io), 84 IO314PB6F36 (io), 92 IO313NB5F34 (io), 93 IO312NB5F34 (io), 94 IO312PB5F34 (io), 97 IO309NB5F34 (io), 98 IO309PB5F34 (io), 99 IO310NB5F34 (io), 100 IO310PB5F34 (io), 103 IO307NB5F34 (io), 104 IO307PB5F34 (io), 105 IO308NB5F34 (io), 106 IO308PB5F34 (io), 109 IO305NB5F34 (io), 110 IO305PB5F34 (io), 111 IO304NB5F34 (io), 112 IO304PB5F34 (io), 123 IO263NB5F30/CLKHN (io), 124 IO263PB5F30/CLKHP (io), 127 IO262NB5F30/CLKGN (io), 128 IO262PB5F30/CLKGP (io), 137 IO261NB4F28/CLKFN (io), 138 IO261PB4F28/CLKFP (io), 141 IO260NB4F28/CLKEN (io), 142 IO260PB4F28/CLKEP (io), 153 IO219NB4F24 (io), 154 IO219PB4F24 (io), 155 IO216NB4F24 (io), 156 IO216PB4F24 (io), 159 IO217NB4F24 (io), 160 IO217PB4F24 (io), 161 IO214NB4F24 (io), 162 IO214PB4F24 (io), 165 IO215NB4F24 (io), 166 IO215PB4F24 (io), 167 IO210NB4F24 (io), 168 IO210PB4F24 (io), 171 IO213NB4F24 (io), 172 IO213PB4F24 (io), 173 IO211NB4F24 (io)
part C pins: 2 VCCDA (power), 3 VCCA (power), 4 VCCA (power), 10 VCCIB7 (power), 16 VCCDA (power), 18 VCCA (power), 22 VCCIB7 (power), 28 VCCIB7 (power), 34 VCCA (power), 40 VCCIB7 (power), 44 VCCA (power), 46 VCCDA (power), 50 VCCIB6 (power), 56 VCCA (power), 62 VCCIB6 (power), 68 VCCIB6 (power), 72 VCCA (power), 74 VCCDA (power), 80 VCCIB6 (power), 85 VCCA (power), 87 VCCA (power), 90 VCCDA (power), 91 VCCDA (power), 95 VCCIB5 (power), 101 VCCA (power), 107 VCCIB5 (power), 113 VCCDA (power), 114 VCCDA (power), 115 VCCDA (power), 116 VCCA (power), 118 VCCDA (power), 120 VCCDA (power), 121 VCCDA (power), 122 VCCDA (power), 125 VCCIB5 (power), 129 VCCA (power), 130 VCCDA (power), 131 VCCA (power), 133 VCCDA (power), 135 PRD (out), 136 PRC (out), 139 VCCIB4 (power), 143 VCCDA (power), 144 VCCDA (power), 145 VCCDA (power), 146 VCCDA (power), 148 VCCA (power), 150 VCCDA (power), 151 VCCDA (power), 152 VCCDA (power), 157 VCCIB4 (power), 163 VCCA (power), 169 VCCIB4 (power), 174 VCCDA (power), 175 VCCA (power), 178 VCCDA (power), 179 VCCA (power), 185 VCCIB3 (power), 191 VCCDA (power), 193 VCCA (power), 197 VCCIB3 (power), 203 VCCIB3 (power), 209 VCCA (power), 215 VCCIB3 (power), 219 VCCA (power), 221 VCCDA (power), 225 VCCIB2 (power), 231 VCCA (power), 237 VCCIB2 (power), 243 VCCIB2 (power), 247 VCCA (power), 249 VCCDA (power), 255 VCCIB2 (power), 261 VCCA (power), 263 VCCA (power), 266 VCCDA (power), 267 VPUMP (power), 268 VCCDA (power), 271 VCCIB1 (power), 277 VCCA (power), 283 VCCIB1 (power), 289 VCCDA (power), 290 VCCDA (power), 291 VCCDA (power), 292 VCCA (power), 294 VCCDA (power), 296 VCCDA (power), 297 VCCDA (power), 298 VCCDA (power), 301 VCCIB1 (power), 305 VCCA (power), 306 VCCDA (power), 307 VCCA (power), 309 VCCDA (power), 311 PRB (out), 312 PRA (out), 315 VCCIB0 (power), 319 VCCDA (power), 320 VCCDA (power), 321 VCCDA (power), 322 VCCDA (power), 324 VCCA (power), 326 VCCDA (power), 327 VCCDA (power), 328 VCCDA (power), 333 VCCIB0 (power), 339 VCCA (power), 344 VCCIB0 (power), 346 VCCDA (power), 347 TDO (hiz), 348 TDI (in), 349 TCK (in), 350 TMS (in), 351 ~{TRST} (in)
part D pins: 1 GND (power), 5 GND (power), 11 GND (power), 17 GND (power), 19 GND (power), 23 GND (power), 29 GND (power), 35 GND (power), 41 GND (power), 45 GND (power), 47 GND (power), 51 GND (power), 57 GND (power), 63 GND (power), 69 GND (power), 73 GND (power), 75 GND (power), 81 GND (power), 86 GND (power), 88 GND (power), 89 GND (power), 96 GND (power), 102 GND (power), 108 GND (power), 117 GND (power), 119 GND (power), 126 GND (power), 132 GND (power), 134 GND (power), 140 GND (power), 147 GND (power), 149 GND (power), 158 GND (power), 164 GND (power), 170 GND (power), 176 GND (power), 177 GND (power), 180 GND (power), 186 GND (power), 192 GND (power), 194 GND (power), 198 GND (power), 204 GND (power), 210 GND (power), 216 GND (power), 220 GND (power), 222 GND (power), 226 GND (power), 232 GND (power), 238 GND (power), 244 GND (power), 248 GND (power), 250 GND (power), 256 GND (power), 262 GND (power), 264 GND (power), 265 GND (power), 272 GND (power), 278 GND (power), 284 GND (power), 293 GND (power), 295 GND (power), 302 GND (power), 308 GND (power), 310 GND (power), 316 GND (power), 323 GND (power), 325 GND (power), 334 GND (power), 340 GND (power), 345 GND (power), 352 GND (power)
part A text: Bank 0; Bank 3; Bank 1; Bank 2
part B text: Bank 4; Bank 7; Bank 5; Bank 6

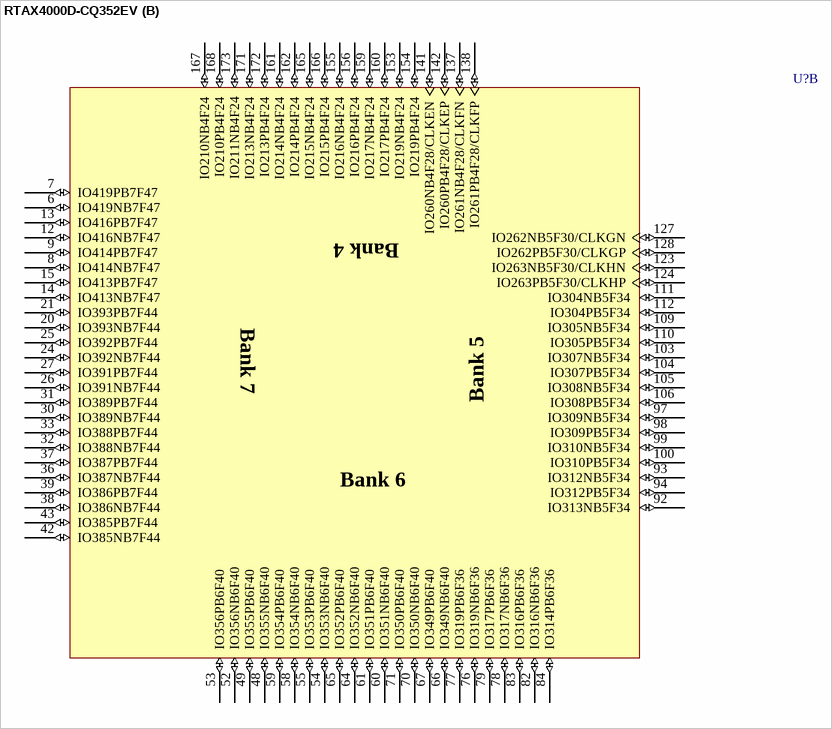
[diagram p18: symbol RTAX4000D-CQ352EV]

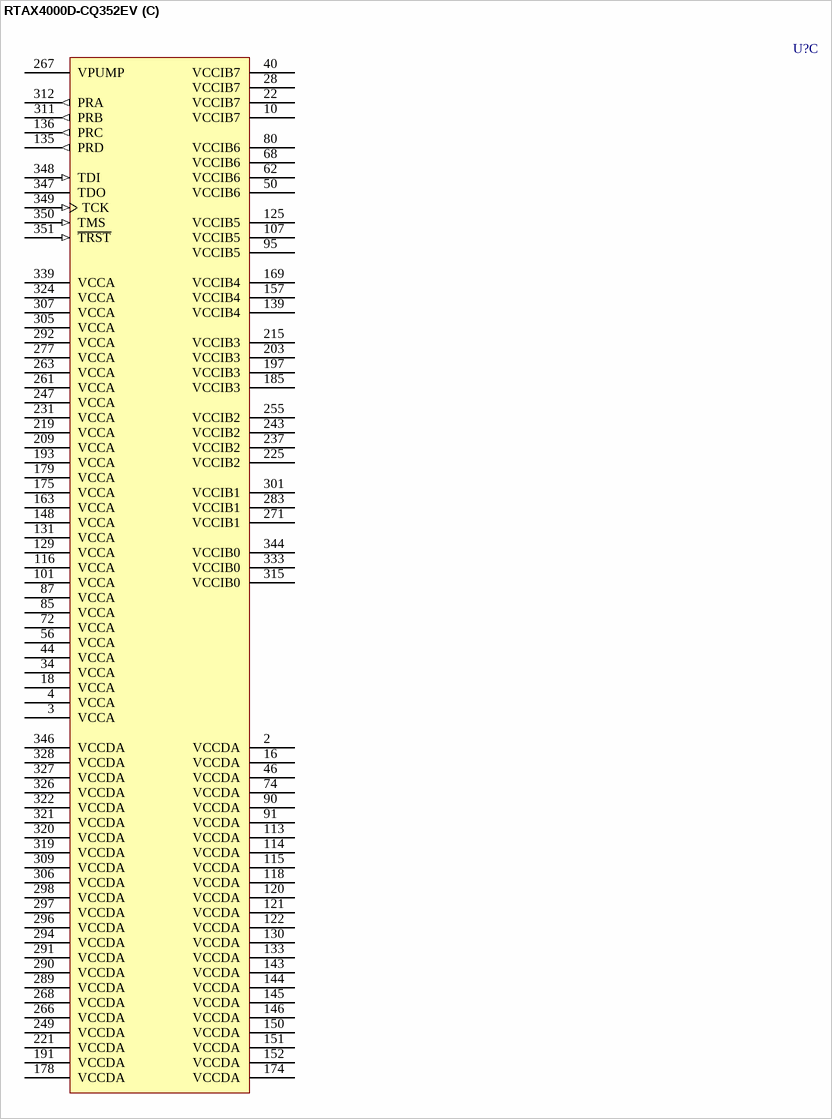
[diagram p19: symbol RTAX4000D-CQ352EV]

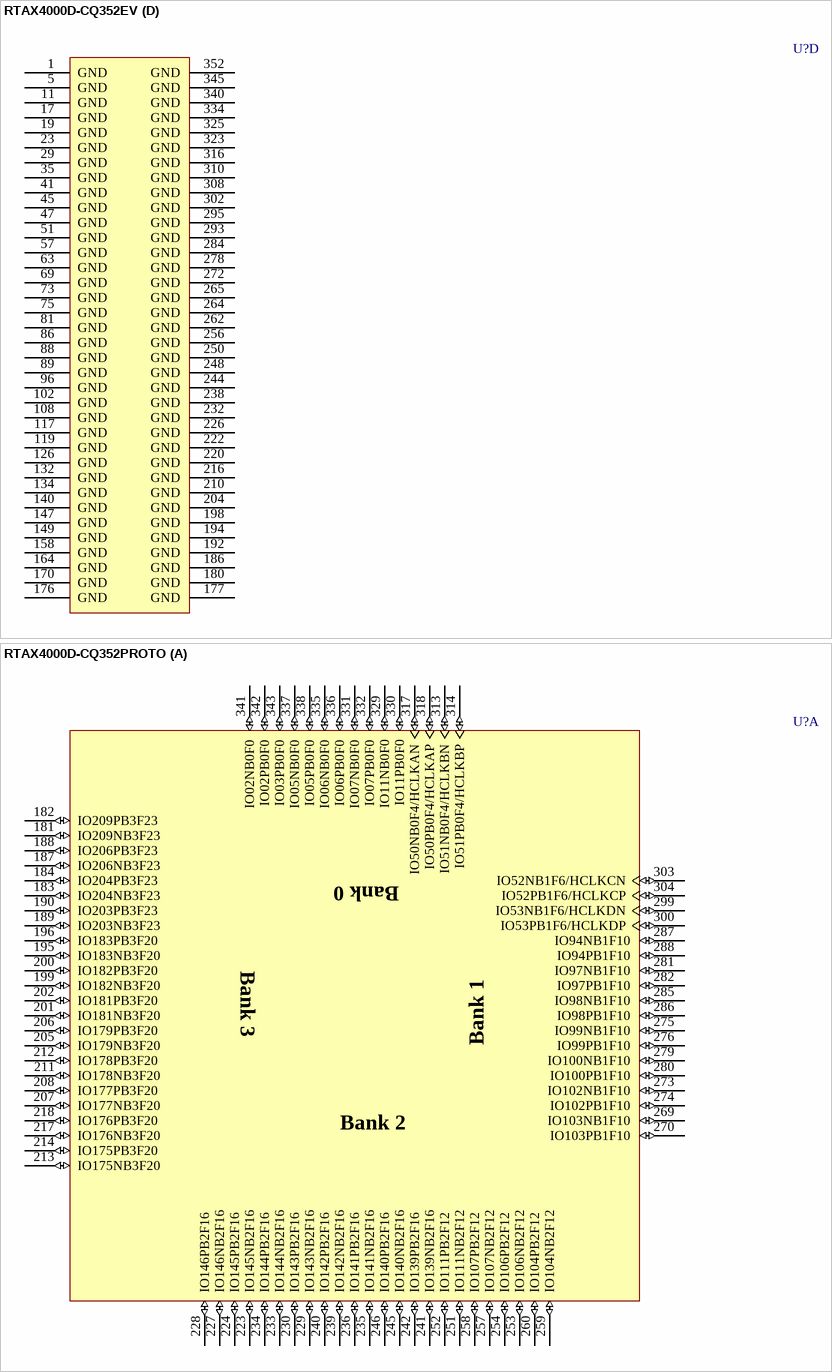
[diagram p20: symbols RTAX4000D-CQ352EV to RTAX4000D-CQ352PROTO]